# Altium integrated library microchip.IntLib: 312 symbols (part 4 of 5)
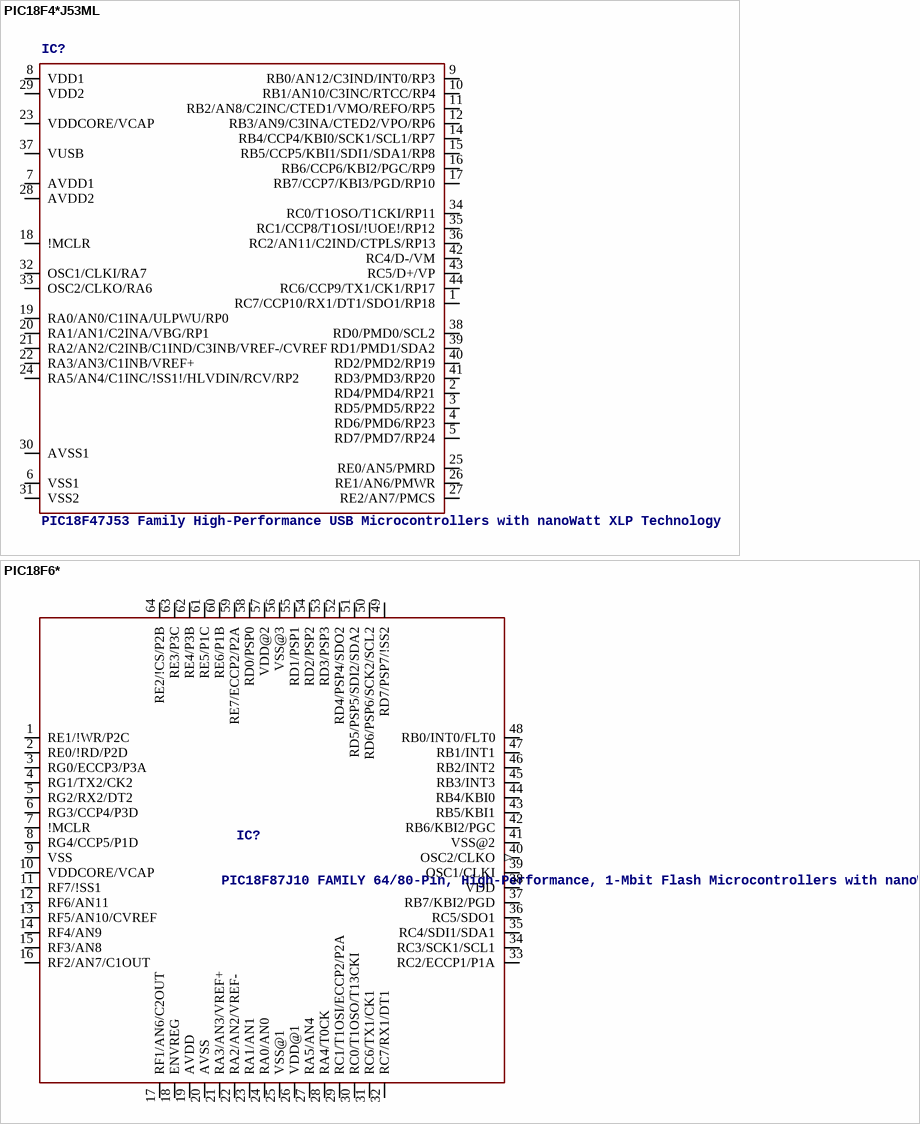
[diagram p46: symbols PIC18F4*J53ML to PIC18F6*]

## PIC18F4*J53ML
designator IC?, comment PIC18F47J53 Family High-Performance USB Microcontrollers with nanoWatt XLP Technology   Source:  Data sheet
MPN: PIC18F46J53-I/ML; MPN: PIC18F47J53-I/ML; OC_FARNELL: unknown; OC_NEWARK: 63R7851; OC_FARNELL: 1815000; OC_NEWARK: 63R7855
footprint QFN44ML8X8
pins: 1 RC7/CCP10/RX1/DT1/SDO1/RP18, 2 RD4/PMD4/RP21, 3 RD5/PMD5/RP22, 4 RD6/PMD6/RP23, 5 RD7/PMD7/RP24, 6 VSS1, 7 AVDD1, 8 VDD1, 9 RB0/AN12/C3IND/INT0/RP3, 10 RB1/AN10/C3INC/RTCC/RP4, 11 RB2/AN8/C2INC/CTED1/VMO/REFO/RP5, 12 RB3/AN9/C3INA/CTED2/VPO/RP6, 14 RB4/CCP4/KBI0/SCK1/SCL1/RP7, 15 RB5/CCP5/KBI1/SDI1/SDA1/RP8, 16 RB6/CCP6/KBI2/PGC/RP9, 17 RB7/CCP7/KBI3/PGD/RP10, 18 !MCLR, 19 RA0/AN0/C1INA/ULPWU/RP0, 20 RA1/AN1/C2INA/VBG/RP1, 21 RA2/AN2/C2INB/C1IND/C3INB/VREF-/CVREF, 22 RA3/AN3/C1INB/VREF+, 23 VDDCORE/VCAP, 24 RA5/AN4/C1INC/!SS1!/HLVDIN/RCV/RP2, 25 RE0/AN5/PMRD, 26 RE1/AN6/PMWR, 27 RE2/AN7/PMCS, 28 AVDD2, 29 VDD2, 30 AVSS1, 31 VSS2, 32 OSC1/CLKI/RA7, 33 OSC2/CLKO/RA6, 34 RC0/T1OSO/T1CKI/RP11, 35 RC1/CCP8/T1OSI/!UOE!/RP12, 36 RC2/AN11/C2IND/CTPLS/RP13, 37 VUSB, 38 RD0/PMD0/SCL2, 39 RD1/PMD1/SDA2, 40 RD2/PMD2/RP19, 41 RD3/PMD3/RP20, 42 RC4/D-/VM, 43 RC5/D+/VP, 44 RC6/CCP9/TX1/CK1/RP17

## PIC18F6*
designator IC?, comment PIC18F87J10 FAMILY 64/80-Pin, High-Performance, 1-Mbit Flash Microcontrollers with nanoWatt Technology   Source: http://www.microchip.com/ .. 39663c.pdf
MPN: PIC18F65J10-I/PT; MPN: PIC18F65J15T-I/PT; MPN: PIC18F66J10-I/PT; MPN: PIC18F66J15-I/PT; MPN: PIC18F67J10-I/PT; MF: MICROCHIP; OC_FARNELL: 1332280; OC_NEWARK: 71J7261; OC_FARNELL: 1579611; OC_NEWARK: 71J7264; OC_FARNELL: 1332281; OC_NEWARK: 71J7266; OC_FARNELL: 1556181; OC_NEWARK: 71J7268; OC_FARNELL: 1332283; OC_NEWARK: 71J7273
footprint TQFP64-10X10
pins: 1 RE1/!WR/P2C, 2 RE0/!RD/P2D, 3 RG0/ECCP3/P3A, 4 RG1/TX2/CK2, 5 RG2/RX2/DT2, 6 RG3/CCP4/P3D, 7 !MCLR, 8 RG4/CCP5/P1D, 9 VSS (power), 10 VDDCORE/VCAP (power), 11 RF7/!SS1, 12 RF6/AN11, 13 RF5/AN10/CVREF, 14 RF4/AN9, 15 RF3/AN8, 16 RF2/AN7/C1OUT, 17 RF1/AN6/C2OUT, 18 ENVREG, 19 AVDD (power), 20 AVSS (power), 21 RA3/AN3/VREF+, 22 RA2/AN2/VREF-, 23 RA1/AN1, 24 RA0/AN0, 25 VSS@1 (power), 26 VDD@1 (power), 27 RA5/AN4, 28 RA4/T0CK, 29 RC1/T1OSI/ECCP2/P2A, 30 RC0/T1OSO/T13CKI, 31 RC6/TX1/CK1, 32 RC7/RX1/DT1, 33 RC2/ECCP1/P1A, 34 RC3/SCK1/SCL1, 35 RC4/SDI1/SDA1, 36 RC5/SDO1, 37 RB7/KBI2/PGD, 38 VDD (power), 39 OSC1/CLKI, 40 OSC2/CLKO (out), 41 VSS@2 (power), 42 RB6/KBI2/PGC, 43 RB5/KBI1, 44 RB4/KBI0, 45 RB3/INT3, 46 RB2/INT2, 47 RB1/INT1, 48 RB0/INT0/FLT0, 49 RD7/PSP7/!SS2, 50 RD6/PSP6/SCK2/SCL2, 51 RD5/PSP5/SDI2/SDA2, 52 RD4/PSP4/SDO2, 53 RD3/PSP3, 54 RD2/PSP2, 55 RD1/PSP1, 56 VSS@3 (power), 57 VDD@2 (power), 58 RD0/PSP0, 59 RE7/ECCP2/P2A, 60 RE6/P1B, 61 RE5/P1C, 62 RE4/P3B, 63 RE3/P3C, 64 RE2/!CS/P2B

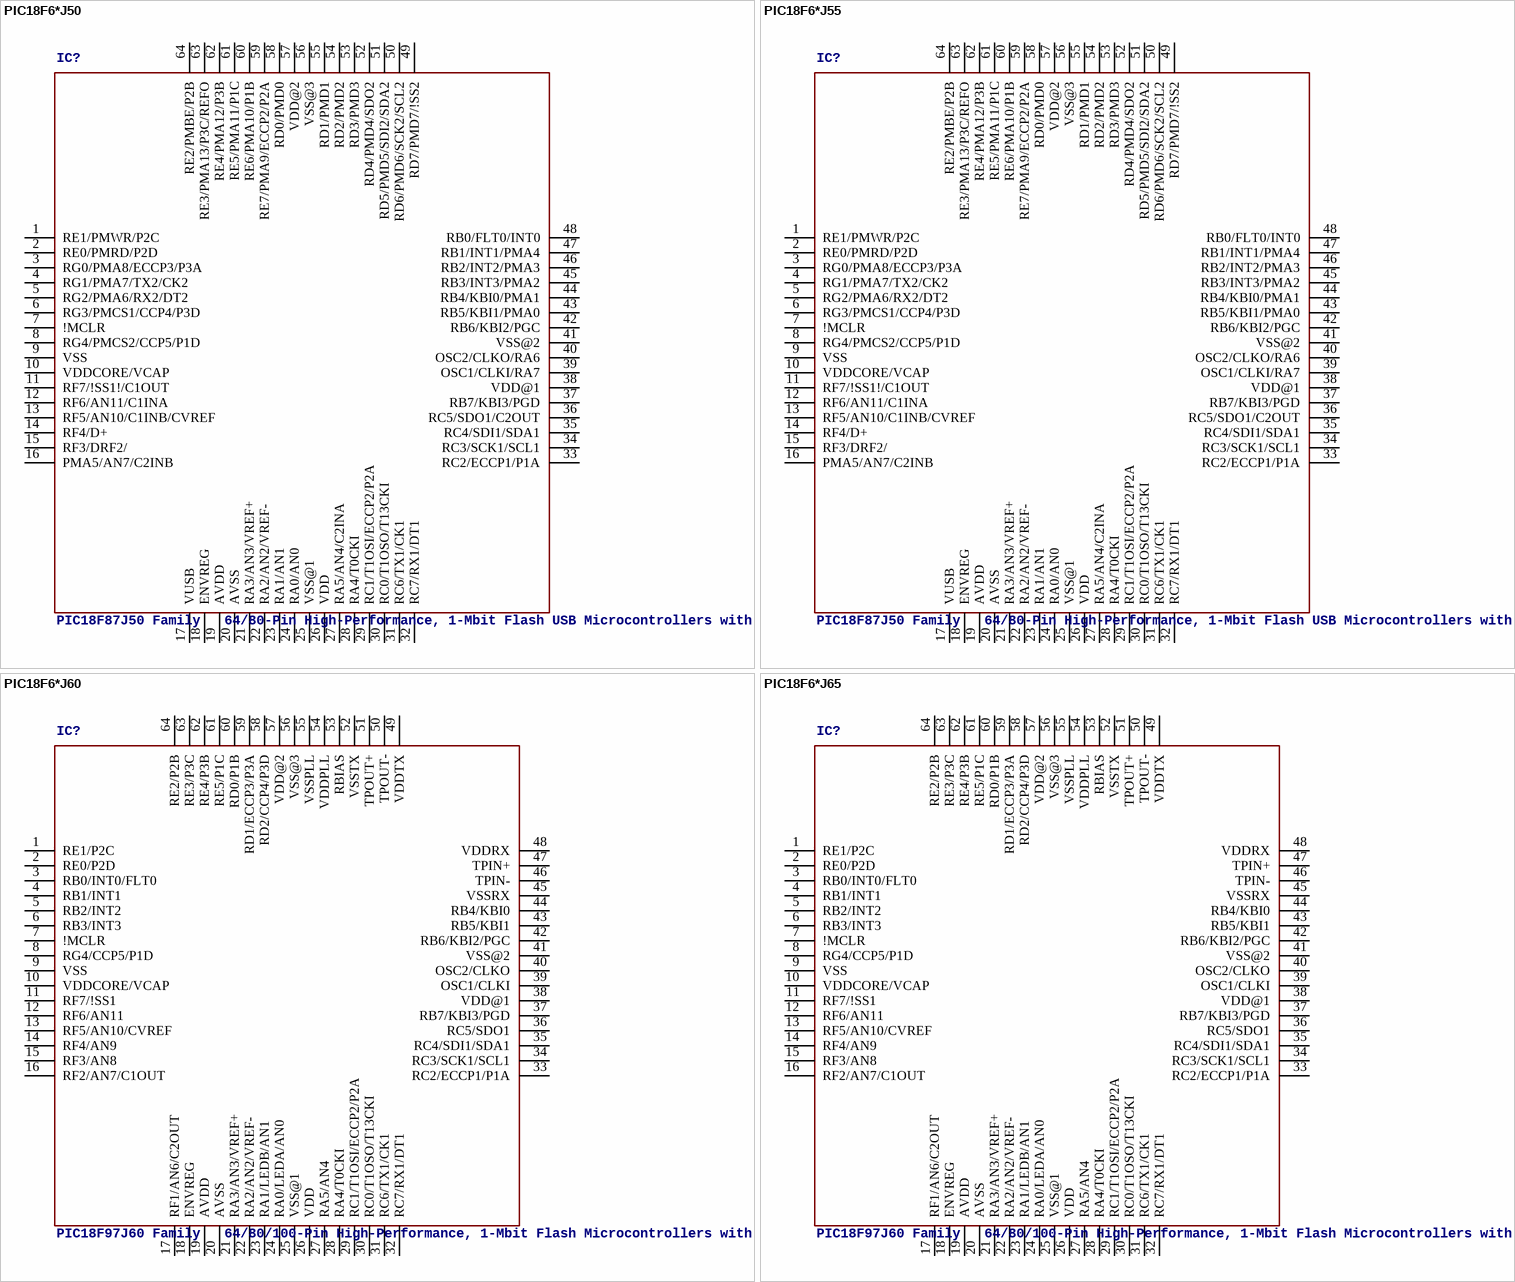
[diagram p25: symbols PIC18F6*J50 to PIC18F6*J65]

## PIC18F6*J50
designator IC?, comment PIC18F87J50 Family   64/80-Pin High-Performance, 1-Mbit Flash USB Microcontrollers with nanoWatt Technology Source: http://ww1.microchip.com/downloads/en/DeviceDoc/39775b.pdf
MPN: PIC18F65J50-I/PT; MPN: PIC18F66J50-I/PT; MPN: PIC18F67J50-I/PT; OC_FARNELL: 1439552; OC_NEWARK: 17M0960; OC_FARNELL: 1439555; OC_NEWARK: 17M0966; OC_FARNELL: 1439559; OC_NEWARK: 17M0972
footprint TQFP64-10X10
pins: 1 RE1/PMWR/P2C, 2 RE0/PMRD/P2D, 3 RG0/PMA8/ECCP3/P3A, 4 RG1/PMA7/TX2/CK2, 5 RG2/PMA6/RX2/DT2, 6 RG3/PMCS1/CCP4/P3D, 7 !MCLR, 8 RG4/PMCS2/CCP5/P1D, 9 VSS (power), 10 VDDCORE/VCAP, 11 RF7/!SS1!/C1OUT, 12 RF6/AN11/C1INA, 13 RF5/AN10/C1INB/CVREF, 14 RF4/D+, 15 RF3/DRF2/, 16 PMA5/AN7/C2INB, 17 VUSB, 18 ENVREG, 19 AVDD, 20 AVSS, 21 RA3/AN3/VREF+, 22 RA2/AN2/VREF-, 23 RA1/AN1, 24 RA0/AN0, 25 VSS@1 (power), 26 VDD (power), 27 RA5/AN4/C2INA, 28 RA4/T0CKI, 29 RC1/T1OSI/ECCP2/P2A, 30 RC0/T1OSO/T13CKI, 31 RC6/TX1/CK1, 32 RC7/RX1/DT1, 33 RC2/ECCP1/P1A, 34 RC3/SCK1/SCL1, 35 RC4/SDI1/SDA1, 36 RC5/SDO1/C2OUT, 37 RB7/KBI3/PGD, 38 VDD@1 (power), 39 OSC1/CLKI/RA7, 40 OSC2/CLKO/RA6, 41 VSS@2 (power), 42 RB6/KBI2/PGC, 43 RB5/KBI1/PMA0, 44 RB4/KBI0/PMA1, 45 RB3/INT3/PMA2, 46 RB2/INT2/PMA3, 47 RB1/INT1/PMA4, 48 RB0/FLT0/INT0, 49 RD7/PMD7/!SS2, 50 RD6/PMD6/SCK2/SCL2, 51 RD5/PMD5/SDI2/SDA2, 52 RD4/PMD4/SDO2, 53 RD3/PMD3, 54 RD2/PMD2, 55 RD1/PMD1, 56 VSS@3 (power), 57 VDD@2 (power), 58 RD0/PMD0, 59 RE7/PMA9/ECCP2/P2A, 60 RE6/PMA10/P1B, 61 RE5/PMA11/P1C, 62 RE4/PMA12/P3B, 63 RE3/PMA13/P3C/REFO, 64 RE2/PMBE/P2B

## PIC18F6*J55
designator IC?, comment PIC18F87J50 Family   64/80-Pin High-Performance, 1-Mbit Flash USB Microcontrollers with nanoWatt Technology Source: http://ww1.microchip.com/downloads/en/DeviceDoc/39775b.pdf
MPN: PIC18F66J55-I/PT; OC_FARNELL: 1439556; OC_NEWARK: 17M0968
footprint TQFP64-10X10
pins: 1 RE1/PMWR/P2C, 2 RE0/PMRD/P2D, 3 RG0/PMA8/ECCP3/P3A, 4 RG1/PMA7/TX2/CK2, 5 RG2/PMA6/RX2/DT2, 6 RG3/PMCS1/CCP4/P3D, 7 !MCLR, 8 RG4/PMCS2/CCP5/P1D, 9 VSS (power), 10 VDDCORE/VCAP, 11 RF7/!SS1!/C1OUT, 12 RF6/AN11/C1INA, 13 RF5/AN10/C1INB/CVREF, 14 RF4/D+, 15 RF3/DRF2/, 16 PMA5/AN7/C2INB, 17 VUSB, 18 ENVREG, 19 AVDD, 20 AVSS, 21 RA3/AN3/VREF+, 22 RA2/AN2/VREF-, 23 RA1/AN1, 24 RA0/AN0, 25 VSS@1 (power), 26 VDD (power), 27 RA5/AN4/C2INA, 28 RA4/T0CKI, 29 RC1/T1OSI/ECCP2/P2A, 30 RC0/T1OSO/T13CKI, 31 RC6/TX1/CK1, 32 RC7/RX1/DT1, 33 RC2/ECCP1/P1A, 34 RC3/SCK1/SCL1, 35 RC4/SDI1/SDA1, 36 RC5/SDO1/C2OUT, 37 RB7/KBI3/PGD, 38 VDD@1 (power), 39 OSC1/CLKI/RA7, 40 OSC2/CLKO/RA6, 41 VSS@2 (power), 42 RB6/KBI2/PGC, 43 RB5/KBI1/PMA0, 44 RB4/KBI0/PMA1, 45 RB3/INT3/PMA2, 46 RB2/INT2/PMA3, 47 RB1/INT1/PMA4, 48 RB0/FLT0/INT0, 49 RD7/PMD7/!SS2, 50 RD6/PMD6/SCK2/SCL2, 51 RD5/PMD5/SDI2/SDA2, 52 RD4/PMD4/SDO2, 53 RD3/PMD3, 54 RD2/PMD2, 55 RD1/PMD1, 56 VSS@3 (power), 57 VDD@2 (power), 58 RD0/PMD0, 59 RE7/PMA9/ECCP2/P2A, 60 RE6/PMA10/P1B, 61 RE5/PMA11/P1C, 62 RE4/PMA12/P3B, 63 RE3/PMA13/P3C/REFO, 64 RE2/PMBE/P2B

## PIC18F6*J60
designator IC?, comment PIC18F97J60 Family   64/80/100-Pin High-Performance, 1-Mbit Flash Microcontrollers with Ethernet Source: http://ww1.microchip.com/downloads/en/DeviceDoc/39762d.pdf
MPN: PIC18F66J60-I/PT; MPN: PIC18F67J60-I/PT; OC_FARNELL: 1332282; OC_NEWARK: 56K7296; OC_FARNELL: 1332285; OC_NEWARK: 56K7302
footprint TQFP64-10X10
pins: 1 RE1/P2C, 2 RE0/P2D, 3 RB0/INT0/FLT0, 4 RB1/INT1, 5 RB2/INT2, 6 RB3/INT3, 7 !MCLR, 8 RG4/CCP5/P1D, 9 VSS, 10 VDDCORE/VCAP, 11 RF7/!SS1, 12 RF6/AN11, 13 RF5/AN10/CVREF, 14 RF4/AN9, 15 RF3/AN8, 16 RF2/AN7/C1OUT, 17 RF1/AN6/C2OUT, 18 ENVREG, 19 AVDD, 20 AVSS, 21 RA3/AN3/VREF+, 22 RA2/AN2/VREF-, 23 RA1/LEDB/AN1, 24 RA0/LEDA/AN0, 25 VSS@1, 26 VDD, 27 RA5/AN4, 28 RA4/T0CKI, 29 RC1/T1OSI/ECCP2/P2A, 30 RC0/T1OSO/T13CKI, 31 RC6/TX1/CK1, 32 RC7/RX1/DT1, 33 RC2/ECCP1/P1A, 34 RC3/SCK1/SCL1, 35 RC4/SDI1/SDA1, 36 RC5/SDO1, 37 RB7/KBI3/PGD, 38 VDD@1, 39 OSC1/CLKI, 40 OSC2/CLKO, 41 VSS@2, 42 RB6/KBI2/PGC, 43 RB5/KBI1, 44 RB4/KBI0, 45 VSSRX, 46 TPIN-, 47 TPIN+, 48 VDDRX, 49 VDDTX, 50 TPOUT-, 51 TPOUT+, 52 VSSTX, 53 RBIAS, 54 VDDPLL, 55 VSSPLL, 56 VSS@3, 57 VDD@2, 58 RD2/CCP4/P3D, 59 RD1/ECCP3/P3A, 60 RD0/P1B, 61 RE5/P1C, 62 RE4/P3B, 63 RE3/P3C, 64 RE2/P2B

## PIC18F6*J65
designator IC?, comment PIC18F97J60 Family   64/80/100-Pin High-Performance, 1-Mbit Flash Microcontrollers with Ethernet Source: http://ww1.microchip.com/downloads/en/DeviceDoc/39762d.pdf
MPN: PIC18F66J65-I/PT; OC_FARNELL: 1579612; OC_NEWARK: 56K7298
footprint TQFP64-10X10
pins: 1 RE1/P2C, 2 RE0/P2D, 3 RB0/INT0/FLT0, 4 RB1/INT1, 5 RB2/INT2, 6 RB3/INT3, 7 !MCLR, 8 RG4/CCP5/P1D, 9 VSS, 10 VDDCORE/VCAP, 11 RF7/!SS1, 12 RF6/AN11, 13 RF5/AN10/CVREF, 14 RF4/AN9, 15 RF3/AN8, 16 RF2/AN7/C1OUT, 17 RF1/AN6/C2OUT, 18 ENVREG, 19 AVDD, 20 AVSS, 21 RA3/AN3/VREF+, 22 RA2/AN2/VREF-, 23 RA1/LEDB/AN1, 24 RA0/LEDA/AN0, 25 VSS@1, 26 VDD, 27 RA5/AN4, 28 RA4/T0CKI, 29 RC1/T1OSI/ECCP2/P2A, 30 RC0/T1OSO/T13CKI, 31 RC6/TX1/CK1, 32 RC7/RX1/DT1, 33 RC2/ECCP1/P1A, 34 RC3/SCK1/SCL1, 35 RC4/SDI1/SDA1, 36 RC5/SDO1, 37 RB7/KBI3/PGD, 38 VDD@1, 39 OSC1/CLKI, 40 OSC2/CLKO, 41 VSS@2, 42 RB6/KBI2/PGC, 43 RB5/KBI1, 44 RB4/KBI0, 45 VSSRX, 46 TPIN-, 47 TPIN+, 48 VDDRX, 49 VDDTX, 50 TPOUT-, 51 TPOUT+, 52 VSSTX, 53 RBIAS, 54 VDDPLL, 55 VSSPLL, 56 VSS@3, 57 VDD@2, 58 RD2/CCP4/P3D, 59 RD1/ECCP3/P3A, 60 RD0/P1B, 61 RE5/P1C, 62 RE4/P3B, 63 RE3/P3C, 64 RE2/P2B

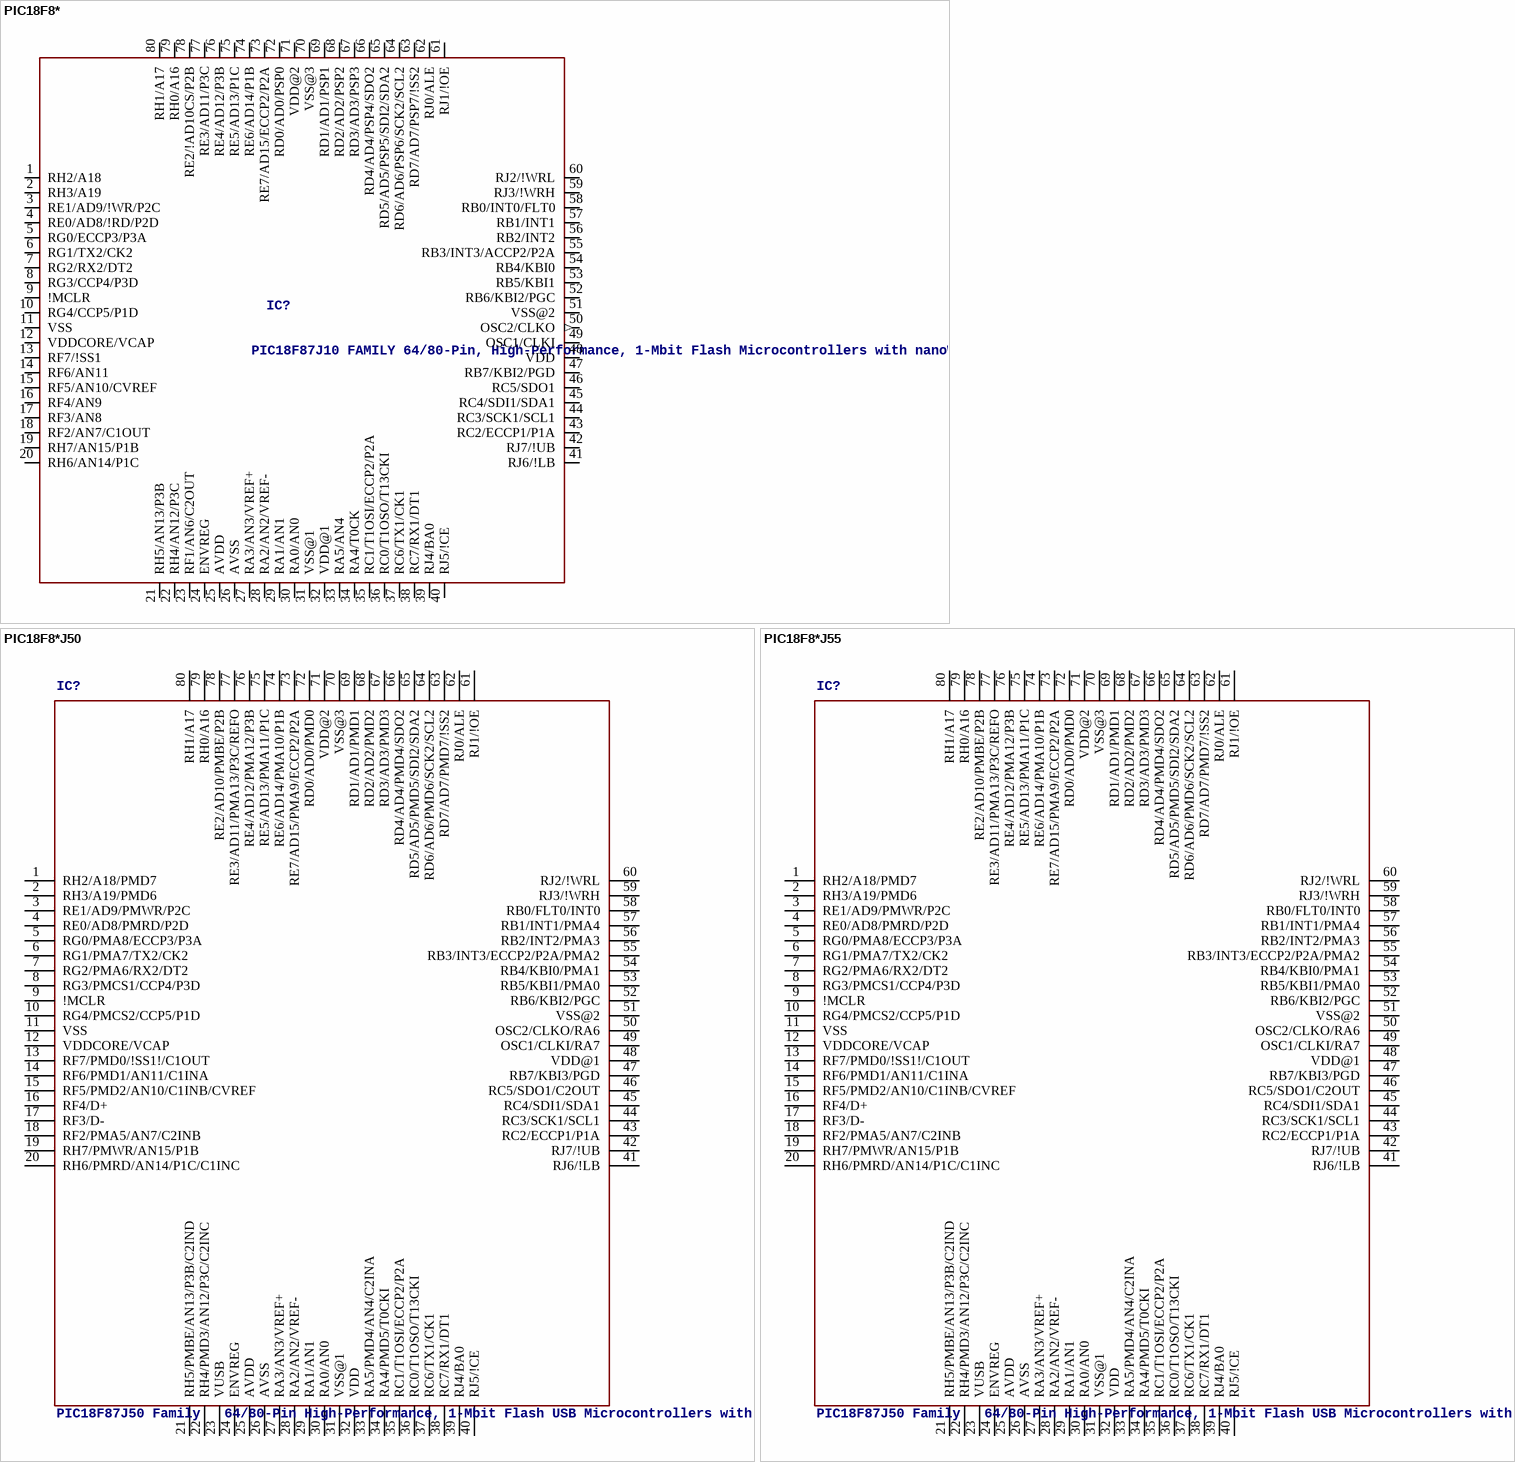
[diagram p26: symbols PIC18F8* to PIC18F8*J55]

## PIC18F8*
designator IC?, comment PIC18F87J10 FAMILY 64/80-Pin, High-Performance, 1-Mbit Flash Microcontrollers with nanoWatt Technology   Source: http://www.microchip.com/ .. 39663c.pdf
MPN: PIC18F85J10-I/PT; MPN: PIC18F85J15-I/PT; MPN: PIC18F86J10-I/PT; MPN: PIC18F86J15-I/PT; MPN: PIC18F87J10-I/PT; MF: MICROCHIP; OC_FARNELL: 1847396; OC_NEWARK: 71J7277; OC_FARNELL: unknown; OC_NEWARK: 71J7279; OC_FARNELL: 1332288; OC_NEWARK: 34M8058; OC_NEWARK: 71J7284; OC_FARNELL: 1332290; OC_NEWARK: 71J7289
footprint TQFP80-12X12
pins: 1 RH2/A18, 2 RH3/A19, 3 RE1/AD9/!WR/P2C, 4 RE0/AD8/!RD/P2D, 5 RG0/ECCP3/P3A, 6 RG1/TX2/CK2, 7 RG2/RX2/DT2, 8 RG3/CCP4/P3D, 9 !MCLR, 10 RG4/CCP5/P1D, 11 VSS (power), 12 VDDCORE/VCAP (power), 13 RF7/!SS1, 14 RF6/AN11, 15 RF5/AN10/CVREF, 16 RF4/AN9, 17 RF3/AN8, 18 RF2/AN7/C1OUT, 19 RH7/AN15/P1B, 20 RH6/AN14/P1C, 21 RH5/AN13/P3B, 22 RH4/AN12/P3C, 23 RF1/AN6/C2OUT, 24 ENVREG, 25 AVDD (power), 26 AVSS (power), 27 RA3/AN3/VREF+, 28 RA2/AN2/VREF-, 29 RA1/AN1, 30 RA0/AN0, 31 VSS@1 (power), 32 VDD@1 (power), 33 RA5/AN4, 34 RA4/T0CK, 35 RC1/T1OSI/ECCP2/P2A, 36 RC0/T1OSO/T13CKI, 37 RC6/TX1/CK1, 38 RC7/RX1/DT1, 39 RJ4/BA0, 40 RJ5/!CE, 41 RJ6/!LB, 42 RJ7/!UB, 43 RC2/ECCP1/P1A, 44 RC3/SCK1/SCL1, 45 RC4/SDI1/SDA1, 46 RC5/SDO1, 47 RB7/KBI2/PGD, 48 VDD (power), 49 OSC1/CLKI, 50 OSC2/CLKO (out), 51 VSS@2 (power), 52 RB6/KBI2/PGC, 53 RB5/KBI1, 54 RB4/KBI0, 55 RB3/INT3/ACCP2/P2A, 56 RB2/INT2, 57 RB1/INT1, 58 RB0/INT0/FLT0, 59 RJ3/!WRH, 60 RJ2/!WRL, 61 RJ1/!OE, 62 RJ0/ALE, 63 RD7/AD7/PSP7/!SS2, 64 RD6/AD6/PSP6/SCK2/SCL2, 65 RD5/AD5/PSP5/SDI2/SDA2, 66 RD4/AD4/PSP4/SDO2, 67 RD3/AD3/PSP3, 68 RD2/AD2/PSP2, 69 RD1/AD1/PSP1, 70 VSS@3 (power), 71 VDD@2 (power), 72 RD0/AD0/PSP0, 73 RE7/AD15/ECCP2/P2A, 74 RE6/AD14/P1B, 75 RE5/AD13/P1C, 76 RE4/AD12/P3B, 77 RE3/AD11/P3C, 78 RE2/!AD10CS/P2B, 79 RH0/A16, 80 RH1/A17

## PIC18F8*J50
designator IC?, comment PIC18F87J50 Family   64/80-Pin High-Performance, 1-Mbit Flash USB Microcontrollers with nanoWatt Technology Source: http://ww1.microchip.com/downloads/en/DeviceDoc/39775b.pdf
MPN: PIC18F85J50-I/PT; MPN: PIC18F86J50-I/PT; MPN: PIC18F87J50-I/PT; OC_FARNELL: 1439565; OC_NEWARK: 59M1134; OC_FARNELL: 1439569; OC_NEWARK: 59M1137; OC_FARNELL: 1439572; OC_NEWARK: 17M0986
footprint TQFP80-12X12
pins: 1 RH2/A18/PMD7, 2 RH3/A19/PMD6, 3 RE1/AD9/PMWR/P2C, 4 RE0/AD8/PMRD/P2D, 5 RG0/PMA8/ECCP3/P3A, 6 RG1/PMA7/TX2/CK2, 7 RG2/PMA6/RX2/DT2, 8 RG3/PMCS1/CCP4/P3D, 9 !MCLR, 10 RG4/PMCS2/CCP5/P1D, 11 VSS (power), 12 VDDCORE/VCAP, 13 RF7/PMD0/!SS1!/C1OUT, 14 RF6/PMD1/AN11/C1INA, 15 RF5/PMD2/AN10/C1INB/CVREF, 16 RF4/D+, 17 RF3/D-, 18 RF2/PMA5/AN7/C2INB, 19 RH7/PMWR/AN15/P1B, 20 RH6/PMRD/AN14/P1C/C1INC, 21 RH5/PMBE/AN13/P3B/C2IND, 22 RH4/PMD3/AN12/P3C/C2INC, 23 VUSB, 24 ENVREG, 25 AVDD, 26 AVSS, 27 RA3/AN3/VREF+, 28 RA2/AN2/VREF-, 29 RA1/AN1, 30 RA0/AN0, 31 VSS@1 (power), 32 VDD (power), 33 RA5/PMD4/AN4/C2INA, 34 RA4/PMD5/T0CKI, 35 RC1/T1OSI/ECCP2/P2A, 36 RC0/T1OSO/T13CKI, 37 RC6/TX1/CK1, 38 RC7/RX1/DT1, 39 RJ4/BA0, 40 RJ5/!CE, 41 RJ6/!LB, 42 RJ7/!UB, 43 RC2/ECCP1/P1A, 44 RC3/SCK1/SCL1, 45 RC4/SDI1/SDA1, 46 RC5/SDO1/C2OUT, 47 RB7/KBI3/PGD, 48 VDD@1 (power), 49 OSC1/CLKI/RA7, 50 OSC2/CLKO/RA6, 51 VSS@2 (power), 52 RB6/KBI2/PGC, 53 RB5/KBI1/PMA0, 54 RB4/KBI0/PMA1, 55 RB3/INT3/ECCP2/P2A/PMA2, 56 RB2/INT2/PMA3, 57 RB1/INT1/PMA4, 58 RB0/FLT0/INT0, 59 RJ3/!WRH, 60 RJ2/!WRL, 61 RJ1/!OE, 62 RJ0/ALE, 63 RD7/AD7/PMD7/!SS2, 64 RD6/AD6/PMD6/SCK2/SCL2, 65 RD5/AD5/PMD5/SDI2/SDA2, 66 RD4/AD4/PMD4/SDO2, 67 RD3/AD3/PMD3, 68 RD2/AD2/PMD2, 69 RD1/AD1/PMD1, 70 VSS@3 (power), 71 VDD@2 (power), 72 RD0/AD0/PMD0, 73 RE7/AD15/PMA9/ECCP2/P2A, 74 RE6/AD14/PMA10/P1B, 75 RE5/AD13/PMA11/P1C, 76 RE4/AD12/PMA12/P3B, 77 RE3/AD11/PMA13/P3C/REFO, 78 RE2/AD10/PMBE/P2B, 79 RH0/A16, 80 RH1/A17

## PIC18F8*J55
designator IC?, comment PIC18F87J50 Family   64/80-Pin High-Performance, 1-Mbit Flash USB Microcontrollers with nanoWatt Technology Source: http://ww1.microchip.com/downloads/en/DeviceDoc/39775b.pdf
MPN: PIC18F86J55-I/PT; OC_FARNELL: unknown; OC_NEWARK: 17M0982
footprint TQFP80-12X12
pins: 1 RH2/A18/PMD7, 2 RH3/A19/PMD6, 3 RE1/AD9/PMWR/P2C, 4 RE0/AD8/PMRD/P2D, 5 RG0/PMA8/ECCP3/P3A, 6 RG1/PMA7/TX2/CK2, 7 RG2/PMA6/RX2/DT2, 8 RG3/PMCS1/CCP4/P3D, 9 !MCLR, 10 RG4/PMCS2/CCP5/P1D, 11 VSS (power), 12 VDDCORE/VCAP, 13 RF7/PMD0/!SS1!/C1OUT, 14 RF6/PMD1/AN11/C1INA, 15 RF5/PMD2/AN10/C1INB/CVREF, 16 RF4/D+, 17 RF3/D-, 18 RF2/PMA5/AN7/C2INB, 19 RH7/PMWR/AN15/P1B, 20 RH6/PMRD/AN14/P1C/C1INC, 21 RH5/PMBE/AN13/P3B/C2IND, 22 RH4/PMD3/AN12/P3C/C2INC, 23 VUSB, 24 ENVREG, 25 AVDD, 26 AVSS, 27 RA3/AN3/VREF+, 28 RA2/AN2/VREF-, 29 RA1/AN1, 30 RA0/AN0, 31 VSS@1 (power), 32 VDD (power), 33 RA5/PMD4/AN4/C2INA, 34 RA4/PMD5/T0CKI, 35 RC1/T1OSI/ECCP2/P2A, 36 RC0/T1OSO/T13CKI, 37 RC6/TX1/CK1, 38 RC7/RX1/DT1, 39 RJ4/BA0, 40 RJ5/!CE, 41 RJ6/!LB, 42 RJ7/!UB, 43 RC2/ECCP1/P1A, 44 RC3/SCK1/SCL1, 45 RC4/SDI1/SDA1, 46 RC5/SDO1/C2OUT, 47 RB7/KBI3/PGD, 48 VDD@1 (power), 49 OSC1/CLKI/RA7, 50 OSC2/CLKO/RA6, 51 VSS@2 (power), 52 RB6/KBI2/PGC, 53 RB5/KBI1/PMA0, 54 RB4/KBI0/PMA1, 55 RB3/INT3/ECCP2/P2A/PMA2, 56 RB2/INT2/PMA3, 57 RB1/INT1/PMA4, 58 RB0/FLT0/INT0, 59 RJ3/!WRH, 60 RJ2/!WRL, 61 RJ1/!OE, 62 RJ0/ALE, 63 RD7/AD7/PMD7/!SS2, 64 RD6/AD6/PMD6/SCK2/SCL2, 65 RD5/AD5/PMD5/SDI2/SDA2, 66 RD4/AD4/PMD4/SDO2, 67 RD3/AD3/PMD3, 68 RD2/AD2/PMD2, 69 RD1/AD1/PMD1, 70 VSS@3 (power), 71 VDD@2 (power), 72 RD0/AD0/PMD0, 73 RE7/AD15/PMA9/ECCP2/P2A, 74 RE6/AD14/PMA10/P1B, 75 RE5/AD13/PMA11/P1C, 76 RE4/AD12/PMA12/P3B, 77 RE3/AD11/PMA13/P3C/REFO, 78 RE2/AD10/PMBE/P2B, 79 RH0/A16, 80 RH1/A17

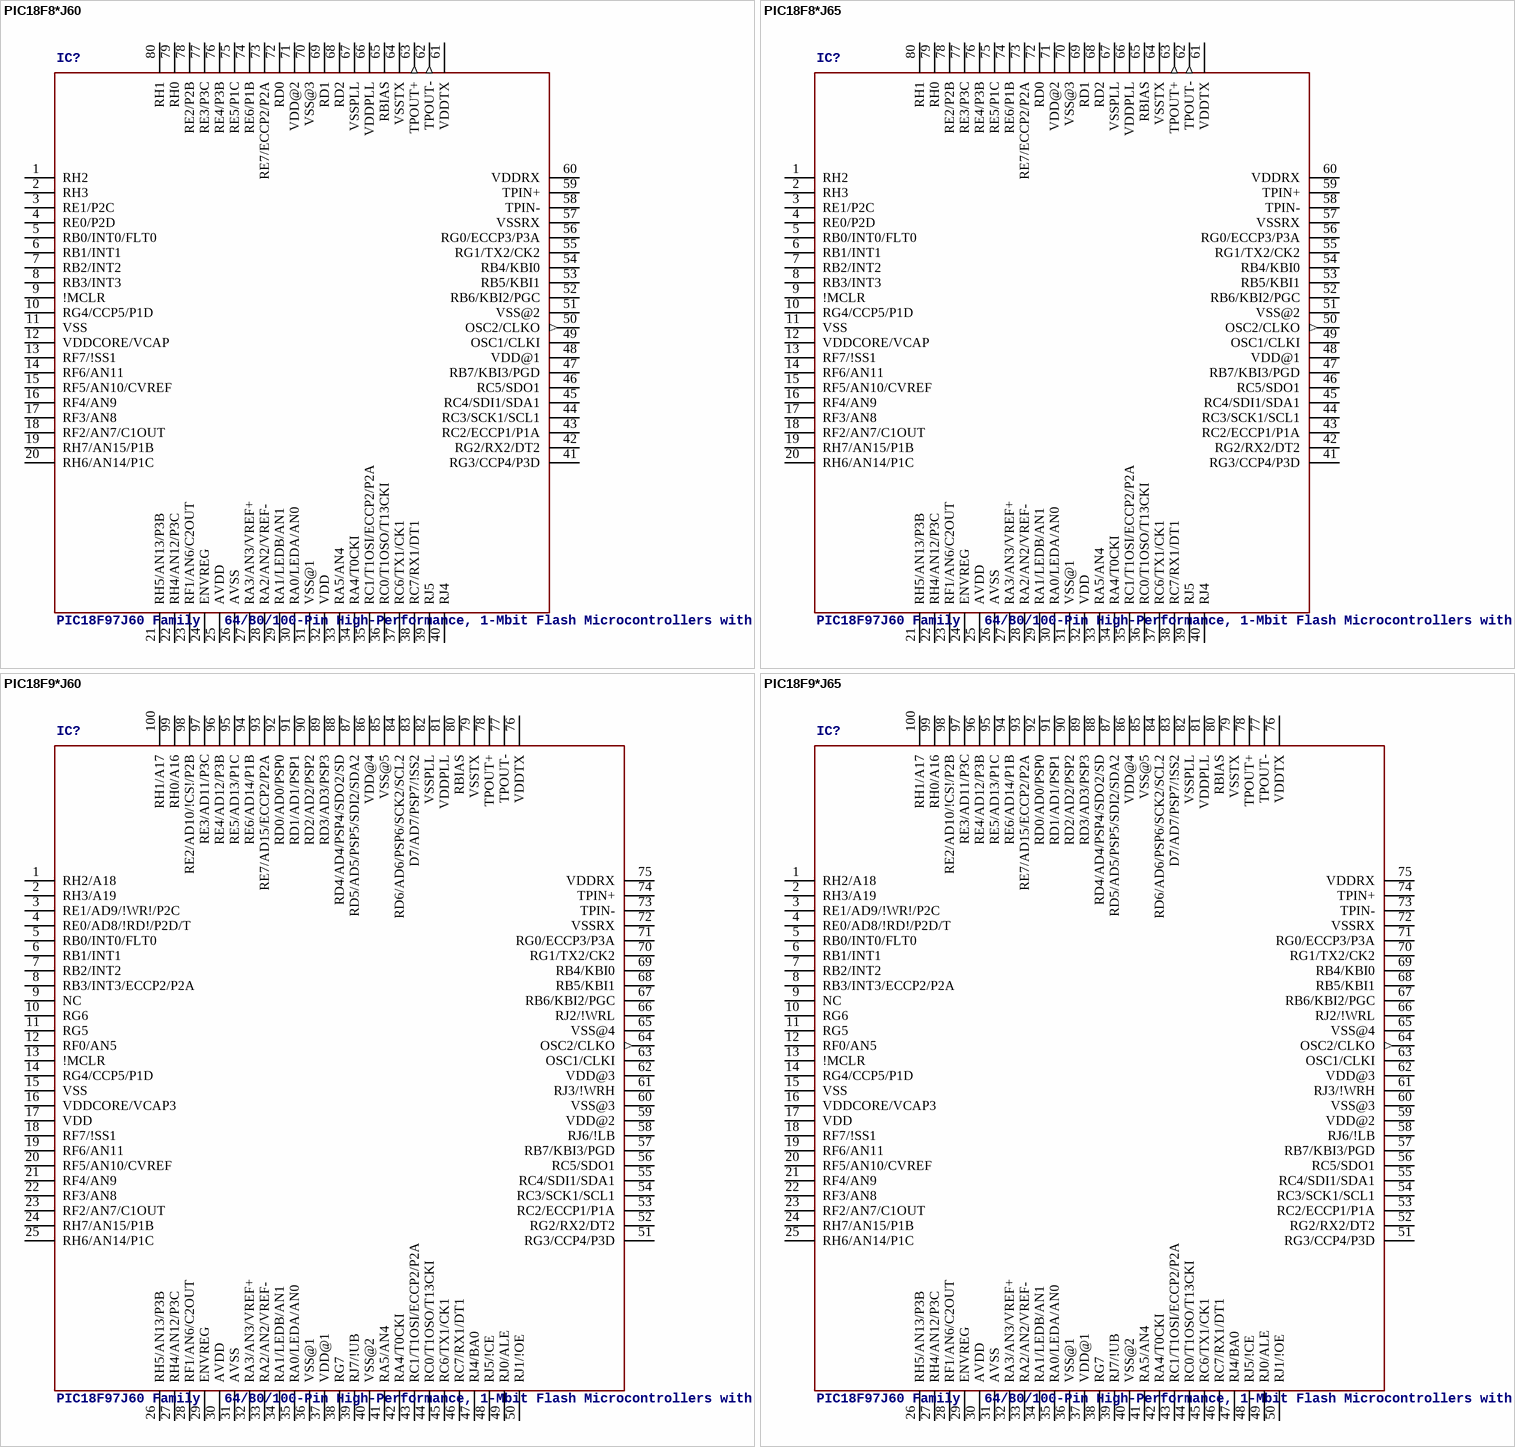
[diagram p27: symbols PIC18F8*J60 to PIC18F9*J65]

## PIC18F8*J60
designator IC?, comment PIC18F97J60 Family   64/80/100-Pin High-Performance, 1-Mbit Flash Microcontrollers with Ethernet Source: http://ww1.microchip.com/downloads/en/DeviceDoc/39762d.pdf
MPN: PIC18F86J60-I/PT; MPN: PIC18F87J60-I/PT; OC_FARNELL: unknown; OC_NEWARK: 56K7306; OC_FARNELL: 1332291; OC_NEWARK: 56K7312
footprint TQFP80-12X12
pins: 1 RH2, 2 RH3, 3 RE1/P2C, 4 RE0/P2D, 5 RB0/INT0/FLT0, 6 RB1/INT1, 7 RB2/INT2, 8 RB3/INT3, 9 !MCLR, 10 RG4/CCP5/P1D, 11 VSS (power), 12 VDDCORE/VCAP, 13 RF7/!SS1, 14 RF6/AN11, 15 RF5/AN10/CVREF, 16 RF4/AN9, 17 RF3/AN8, 18 RF2/AN7/C1OUT, 19 RH7/AN15/P1B, 20 RH6/AN14/P1C, 21 RH5/AN13/P3B, 22 RH4/AN12/P3C, 23 RF1/AN6/C2OUT, 24 ENVREG, 25 AVDD, 26 AVSS, 27 RA3/AN3/VREF+, 28 RA2/AN2/VREF-, 29 RA1/LEDB/AN1, 30 RA0/LEDA/AN0, 31 VSS@1 (power), 32 VDD (power), 33 RA5/AN4, 34 RA4/T0CKI, 35 RC1/T1OSI/ECCP2/P2A, 36 RC0/T1OSO/T13CKI, 37 RC6/TX1/CK1, 38 RC7/RX1/DT1, 39 RJ5, 40 RJ4, 41 RG3/CCP4/P3D, 42 RG2/RX2/DT2, 43 RC2/ECCP1/P1A, 44 RC3/SCK1/SCL1, 45 RC4/SDI1/SDA1, 46 RC5/SDO1, 47 RB7/KBI3/PGD, 48 VDD@1 (power), 49 OSC1/CLKI, 50 OSC2/CLKO (out), 51 VSS@2 (power), 52 RB6/KBI2/PGC, 53 RB5/KBI1, 54 RB4/KBI0, 55 RG1/TX2/CK2, 56 RG0/ECCP3/P3A, 57 VSSRX, 58 TPIN-, 59 TPIN+, 60 VDDRX, 61 VDDTX, 62 TPOUT- (out), 63 TPOUT+ (out), 64 VSSTX, 65 RBIAS, 66 VDDPLL, 67 VSSPLL, 68 RD2, 69 RD1, 70 VSS@3 (power), 71 VDD@2 (power), 72 RD0, 73 RE7/ECCP2/P2A, 74 RE6/P1B, 75 RE5/P1C, 76 RE4/P3B, 77 RE3/P3C, 78 RE2/P2B, 79 RH0, 80 RH1

## PIC18F8*J65
designator IC?, comment PIC18F97J60 Family   64/80/100-Pin High-Performance, 1-Mbit Flash Microcontrollers with Ethernet Source: http://ww1.microchip.com/downloads/en/DeviceDoc/39762d.pdf
MPN: PIC18F86J65-I/PT; OC_FARNELL: 1564571; OC_NEWARK: 95M7065
footprint TQFP80-12X12
pins: 1 RH2, 2 RH3, 3 RE1/P2C, 4 RE0/P2D, 5 RB0/INT0/FLT0, 6 RB1/INT1, 7 RB2/INT2, 8 RB3/INT3, 9 !MCLR, 10 RG4/CCP5/P1D, 11 VSS (power), 12 VDDCORE/VCAP, 13 RF7/!SS1, 14 RF6/AN11, 15 RF5/AN10/CVREF, 16 RF4/AN9, 17 RF3/AN8, 18 RF2/AN7/C1OUT, 19 RH7/AN15/P1B, 20 RH6/AN14/P1C, 21 RH5/AN13/P3B, 22 RH4/AN12/P3C, 23 RF1/AN6/C2OUT, 24 ENVREG, 25 AVDD, 26 AVSS, 27 RA3/AN3/VREF+, 28 RA2/AN2/VREF-, 29 RA1/LEDB/AN1, 30 RA0/LEDA/AN0, 31 VSS@1 (power), 32 VDD (power), 33 RA5/AN4, 34 RA4/T0CKI, 35 RC1/T1OSI/ECCP2/P2A, 36 RC0/T1OSO/T13CKI, 37 RC6/TX1/CK1, 38 RC7/RX1/DT1, 39 RJ5, 40 RJ4, 41 RG3/CCP4/P3D, 42 RG2/RX2/DT2, 43 RC2/ECCP1/P1A, 44 RC3/SCK1/SCL1, 45 RC4/SDI1/SDA1, 46 RC5/SDO1, 47 RB7/KBI3/PGD, 48 VDD@1 (power), 49 OSC1/CLKI, 50 OSC2/CLKO (out), 51 VSS@2 (power), 52 RB6/KBI2/PGC, 53 RB5/KBI1, 54 RB4/KBI0, 55 RG1/TX2/CK2, 56 RG0/ECCP3/P3A, 57 VSSRX, 58 TPIN-, 59 TPIN+, 60 VDDRX, 61 VDDTX, 62 TPOUT- (out), 63 TPOUT+ (out), 64 VSSTX, 65 RBIAS, 66 VDDPLL, 67 VSSPLL, 68 RD2, 69 RD1, 70 VSS@3 (power), 71 VDD@2 (power), 72 RD0, 73 RE7/ECCP2/P2A, 74 RE6/P1B, 75 RE5/P1C, 76 RE4/P3B, 77 RE3/P3C, 78 RE2/P2B, 79 RH0, 80 RH1

## PIC18F9*J60
designator IC?, comment PIC18F97J60 Family   64/80/100-Pin High-Performance, 1-Mbit Flash Microcontrollers with Ethernet Source: http://ww1.microchip.com/downloads/en/DeviceDoc/39762d.pdf
MPN: PIC18F96J60-I/PT; MPN: PIC18F97J60-I/PT; OC_FARNELL: 1332292; OC_NEWARK: 56K7316; OC_FARNELL: 1439573; OC_NEWARK: 56K7318
footprint TQFP100-14X14
pins: 1 RH2/A18, 2 RH3/A19, 3 RE1/AD9/!WR!/P2C, 4 RE0/AD8/!RD!/P2D/T, 5 RB0/INT0/FLT0, 6 RB1/INT1, 7 RB2/INT2, 8 RB3/INT3/ECCP2/P2A, 9 NC, 10 RG6, 11 RG5, 12 RF0/AN5, 13 !MCLR, 14 RG4/CCP5/P1D, 15 VSS (power), 16 VDDCORE/VCAP3, 17 VDD (power), 18 RF7/!SS1, 19 RF6/AN11, 20 RF5/AN10/CVREF, 21 RF4/AN9, 22 RF3/AN8, 23 RF2/AN7/C1OUT, 24 RH7/AN15/P1B, 25 RH6/AN14/P1C, 26 RH5/AN13/P3B, 27 RH4/AN12/P3C, 28 RF1/AN6/C2OUT, 29 ENVREG, 30 AVDD, 31 AVSS, 32 RA3/AN3/VREF+, 33 RA2/AN2/VREF-, 34 RA1/LEDB/AN1, 35 RA0/LEDA/AN0, 36 VSS@1 (power), 37 VDD@1 (power), 38 RG7, 39 RJ7/!UB, 40 VSS@2, 41 RA5/AN4, 42 RA4/T0CKI, 43 RC1/T1OSI/ECCP2/P2A, 44 RC0/T1OSO/T13CKI, 45 RC6/TX1/CK1, 46 RC7/RX1/DT1, 47 RJ4/BA0, 48 RJ5/!CE, 49 RJ0/ALE, 50 RJ1/!OE, 51 RG3/CCP4/P3D, 52 RG2/RX2/DT2, 53 RC2/ECCP1/P1A, 54 RC3/SCK1/SCL1, 55 RC4/SDI1/SDA1, 56 RC5/SDO1, 57 RB7/KBI3/PGD, 58 RJ6/!LB, 59 VDD@2 (power), 60 VSS@3 (power), 61 RJ3/!WRH, 62 VDD@3 (power), 63 OSC1/CLKI, 64 OSC2/CLKO (out), 65 VSS@4 (power), 66 RJ2/!WRL, 67 RB6/KBI2/PGC, 68 RB5/KBI1, 69 RB4/KBI0, 70 RG1/TX2/CK2, 71 RG0/ECCP3/P3A, 72 VSSRX, 73 TPIN-, 74 TPIN+, 75 VDDRX, 76 VDDTX, 77 TPOUT-, 78 TPOUT+, 79 VSSTX, 80 RBIAS, 81 VDDPLL, 82 VSSPLL, 83 D7/AD7/PSP7/!SS2, 84 RD6/AD6/PSP6/SCK2/SCL2, 85 VSS@5 (power), 86 VDD@4 (power), 87 RD5/AD5/PSP5/SDI2/SDA2, 88 RD4/AD4/PSP4/SDO2/SD, 89 RD3/AD3/PSP3, 90 RD2/AD2/PSP2, 91 RD1/AD1/PSP1, 92 RD0/AD0/PSP0, 93 RE7/AD15/ECCP2/P2A, 94 RE6/AD14/P1B, 95 RE5/AD13/P1C, 96 RE4/AD12/P3B, 97 RE3/AD11/P3C, 98 RE2/AD10/!CS!/P2B, 99 RH0/A16, 100 RH1/A17

## PIC18F9*J65
designator IC?, comment PIC18F97J60 Family   64/80/100-Pin High-Performance, 1-Mbit Flash Microcontrollers with Ethernet Source: http://ww1.microchip.com/downloads/en/DeviceDoc/39762d.pdf
MPN: PIC18F96J65-I/PT; OC_FARNELL: 1564573; OC_NEWARK: 56K7317
footprint TQFP100-14X14
pins: 1 RH2/A18, 2 RH3/A19, 3 RE1/AD9/!WR!/P2C, 4 RE0/AD8/!RD!/P2D/T, 5 RB0/INT0/FLT0, 6 RB1/INT1, 7 RB2/INT2, 8 RB3/INT3/ECCP2/P2A, 9 NC, 10 RG6, 11 RG5, 12 RF0/AN5, 13 !MCLR, 14 RG4/CCP5/P1D, 15 VSS (power), 16 VDDCORE/VCAP3, 17 VDD (power), 18 RF7/!SS1, 19 RF6/AN11, 20 RF5/AN10/CVREF, 21 RF4/AN9, 22 RF3/AN8, 23 RF2/AN7/C1OUT, 24 RH7/AN15/P1B, 25 RH6/AN14/P1C, 26 RH5/AN13/P3B, 27 RH4/AN12/P3C, 28 RF1/AN6/C2OUT, 29 ENVREG, 30 AVDD, 31 AVSS, 32 RA3/AN3/VREF+, 33 RA2/AN2/VREF-, 34 RA1/LEDB/AN1, 35 RA0/LEDA/AN0, 36 VSS@1 (power), 37 VDD@1 (power), 38 RG7, 39 RJ7/!UB, 40 VSS@2, 41 RA5/AN4, 42 RA4/T0CKI, 43 RC1/T1OSI/ECCP2/P2A, 44 RC0/T1OSO/T13CKI, 45 RC6/TX1/CK1, 46 RC7/RX1/DT1, 47 RJ4/BA0, 48 RJ5/!CE, 49 RJ0/ALE, 50 RJ1/!OE, 51 RG3/CCP4/P3D, 52 RG2/RX2/DT2, 53 RC2/ECCP1/P1A, 54 RC3/SCK1/SCL1, 55 RC4/SDI1/SDA1, 56 RC5/SDO1, 57 RB7/KBI3/PGD, 58 RJ6/!LB, 59 VDD@2 (power), 60 VSS@3 (power), 61 RJ3/!WRH, 62 VDD@3 (power), 63 OSC1/CLKI, 64 OSC2/CLKO (out), 65 VSS@4 (power), 66 RJ2/!WRL, 67 RB6/KBI2/PGC, 68 RB5/KBI1, 69 RB4/KBI0, 70 RG1/TX2/CK2, 71 RG0/ECCP3/P3A, 72 VSSRX, 73 TPIN-, 74 TPIN+, 75 VDDRX, 76 VDDTX, 77 TPOUT-, 78 TPOUT+, 79 VSSTX, 80 RBIAS, 81 VDDPLL, 82 VSSPLL, 83 D7/AD7/PSP7/!SS2, 84 RD6/AD6/PSP6/SCK2/SCL2, 85 VSS@5 (power), 86 VDD@4 (power), 87 RD5/AD5/PSP5/SDI2/SDA2, 88 RD4/AD4/PSP4/SDO2/SD, 89 RD3/AD3/PSP3, 90 RD2/AD2/PSP2, 91 RD1/AD1/PSP1, 92 RD0/AD0/PSP0, 93 RE7/AD15/ECCP2/P2A, 94 RE6/AD14/P1B, 95 RE5/AD13/P1C, 96 RE4/AD12/P3B, 97 RE3/AD11/P3C, 98 RE2/AD10/!CS!/P2B, 99 RH0/A16, 100 RH1/A17

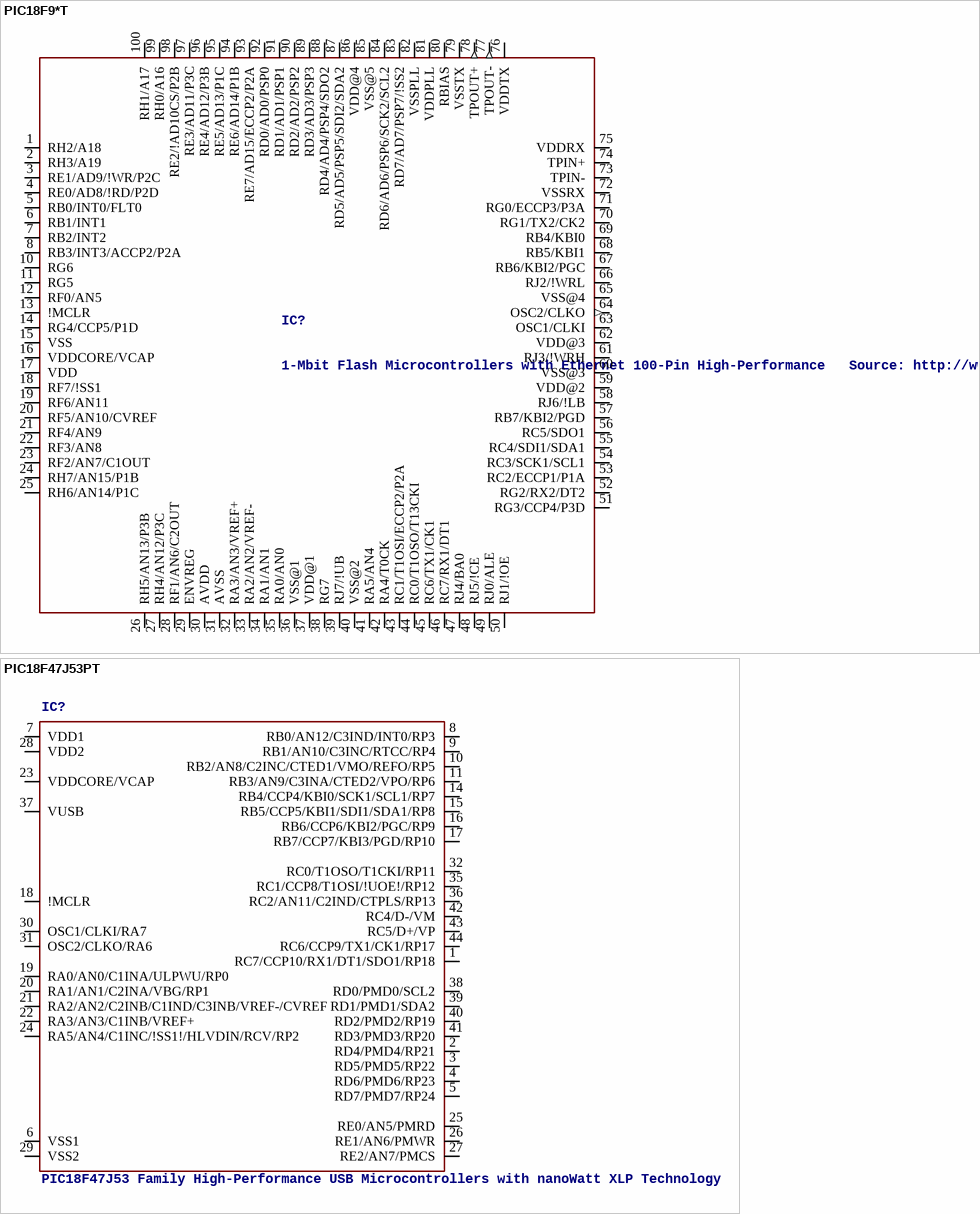
[diagram p28: symbols PIC18F9*T to PIC18F47J53PT]

## PIC18F9*T
designator IC?, comment 1-Mbit Flash Microcontrollers with Ethernet 100-Pin High-Performance   Source: http://ww1.microchip.com/downloads/en/DeviceDoc/39762c.pdf
MPN: PIC18F96J60T-I/PT; MPN: PIC18F96J65T-I/PT; MPN: PIC18F97J60T-I/PT; OC_FARNELL: 1332292; OC_NEWARK: 54M5051; OC_FARNELL: 1564573; OC_NEWARK: 74K8624; OC_FARNELL: 1439573; OC_NEWARK: 59M1140
footprint TQFP100-14X14
pins: 1 RH2/A18, 2 RH3/A19, 3 RE1/AD9/!WR/P2C, 4 RE0/AD8/!RD/P2D, 5 RB0/INT0/FLT0, 6 RB1/INT1, 7 RB2/INT2, 8 RB3/INT3/ACCP2/P2A, 10 RG6, 11 RG5, 12 RF0/AN5, 13 !MCLR, 14 RG4/CCP5/P1D, 15 VSS (power), 16 VDDCORE/VCAP (power), 17 VDD (power), 18 RF7/!SS1, 19 RF6/AN11, 20 RF5/AN10/CVREF, 21 RF4/AN9, 22 RF3/AN8, 23 RF2/AN7/C1OUT, 24 RH7/AN15/P1B, 25 RH6/AN14/P1C, 26 RH5/AN13/P3B, 27 RH4/AN12/P3C, 28 RF1/AN6/C2OUT, 29 ENVREG, 30 AVDD (power), 31 AVSS (power), 32 RA3/AN3/VREF+, 33 RA2/AN2/VREF-, 34 RA1/AN1, 35 RA0/AN0, 36 VSS@1 (power), 37 VDD@1 (power), 38 RG7, 39 RJ7/!UB, 40 VSS@2 (power), 41 RA5/AN4, 42 RA4/T0CK, 43 RC1/T1OSI/ECCP2/P2A, 44 RC0/T1OSO/T13CKI, 45 RC6/TX1/CK1, 46 RC7/RX1/DT1, 47 RJ4/BA0, 48 RJ5/!CE, 49 RJ0/ALE, 50 RJ1/!OE, 51 RG3/CCP4/P3D, 52 RG2/RX2/DT2, 53 RC2/ECCP1/P1A, 54 RC3/SCK1/SCL1, 55 RC4/SDI1/SDA1, 56 RC5/SDO1, 57 RB7/KBI2/PGD, 58 RJ6/!LB, 59 VDD@2 (power), 60 VSS@3 (power), 61 RJ3/!WRH, 62 VDD@3 (power), 63 OSC1/CLKI, 64 OSC2/CLKO (out), 65 VSS@4 (power), 66 RJ2/!WRL, 67 RB6/KBI2/PGC, 68 RB5/KBI1, 69 RB4/KBI0, 70 RG1/TX2/CK2, 71 RG0/ECCP3/P3A, 72 VSSRX (power), 73 TPIN-, 74 TPIN+, 75 VDDRX (power), 76 VDDTX (power), 77 TPOUT- (out), 78 TPOUT+ (out), 79 VSSTX (power), 80 RBIAS, 81 VDDPLL (power), 82 VSSPLL (power), 83 RD7/AD7/PSP7/!SS2, 84 RD6/AD6/PSP6/SCK2/SCL2, 85 VSS@5 (power), 86 VDD@4 (power), 87 RD5/AD5/PSP5/SDI2/SDA2, 88 RD4/AD4/PSP4/SDO2, 89 RD3/AD3/PSP3, 90 RD2/AD2/PSP2, 91 RD1/AD1/PSP1, 92 RD0/AD0/PSP0, 93 RE7/AD15/ECCP2/P2A, 94 RE6/AD14/P1B, 95 RE5/AD13/P1C, 96 RE4/AD12/P3B, 97 RE3/AD11/P3C, 98 RE2/!AD10CS/P2B, 99 RH0/A16, 100 RH1/A17

## PIC18F47J53PT
designator IC?, comment PIC18F47J53 Family High-Performance USB Microcontrollers with nanoWatt XLP Technology   Source:  Data sheet
MPN: PIC18F47J53-I/PT; OC_FARNELL: 1815001; OC_NEWARK: 63R7856
footprint TQFP44
pins: 1 RC7/CCP10/RX1/DT1/SDO1/RP18, 2 RD4/PMD4/RP21, 3 RD5/PMD5/RP22, 4 RD6/PMD6/RP23, 5 RD7/PMD7/RP24, 6 VSS1, 7 VDD1, 8 RB0/AN12/C3IND/INT0/RP3, 9 RB1/AN10/C3INC/RTCC/RP4, 10 RB2/AN8/C2INC/CTED1/VMO/REFO/RP5, 11 RB3/AN9/C3INA/CTED2/VPO/RP6, 14 RB4/CCP4/KBI0/SCK1/SCL1/RP7, 15 RB5/CCP5/KBI1/SDI1/SDA1/RP8, 16 RB6/CCP6/KBI2/PGC/RP9, 17 RB7/CCP7/KBI3/PGD/RP10, 18 !MCLR, 19 RA0/AN0/C1INA/ULPWU/RP0, 20 RA1/AN1/C2INA/VBG/RP1, 21 RA2/AN2/C2INB/C1IND/C3INB/VREF-/CVREF, 22 RA3/AN3/C1INB/VREF+, 23 VDDCORE/VCAP, 24 RA5/AN4/C1INC/!SS1!/HLVDIN/RCV/RP2, 25 RE0/AN5/PMRD, 26 RE1/AN6/PMWR, 27 RE2/AN7/PMCS, 28 VDD2, 29 VSS2, 30 OSC1/CLKI/RA7, 31 OSC2/CLKO/RA6, 32 RC0/T1OSO/T1CKI/RP11, 35 RC1/CCP8/T1OSI/!UOE!/RP12, 36 RC2/AN11/C2IND/CTPLS/RP13, 37 VUSB, 38 RD0/PMD0/SCL2, 39 RD1/PMD1/SDA2, 40 RD2/PMD2/RP19, 41 RD3/PMD3/RP20, 42 RC4/D-/VM, 43 RC5/D+/VP, 44 RC6/CCP9/TX1/CK1/RP17

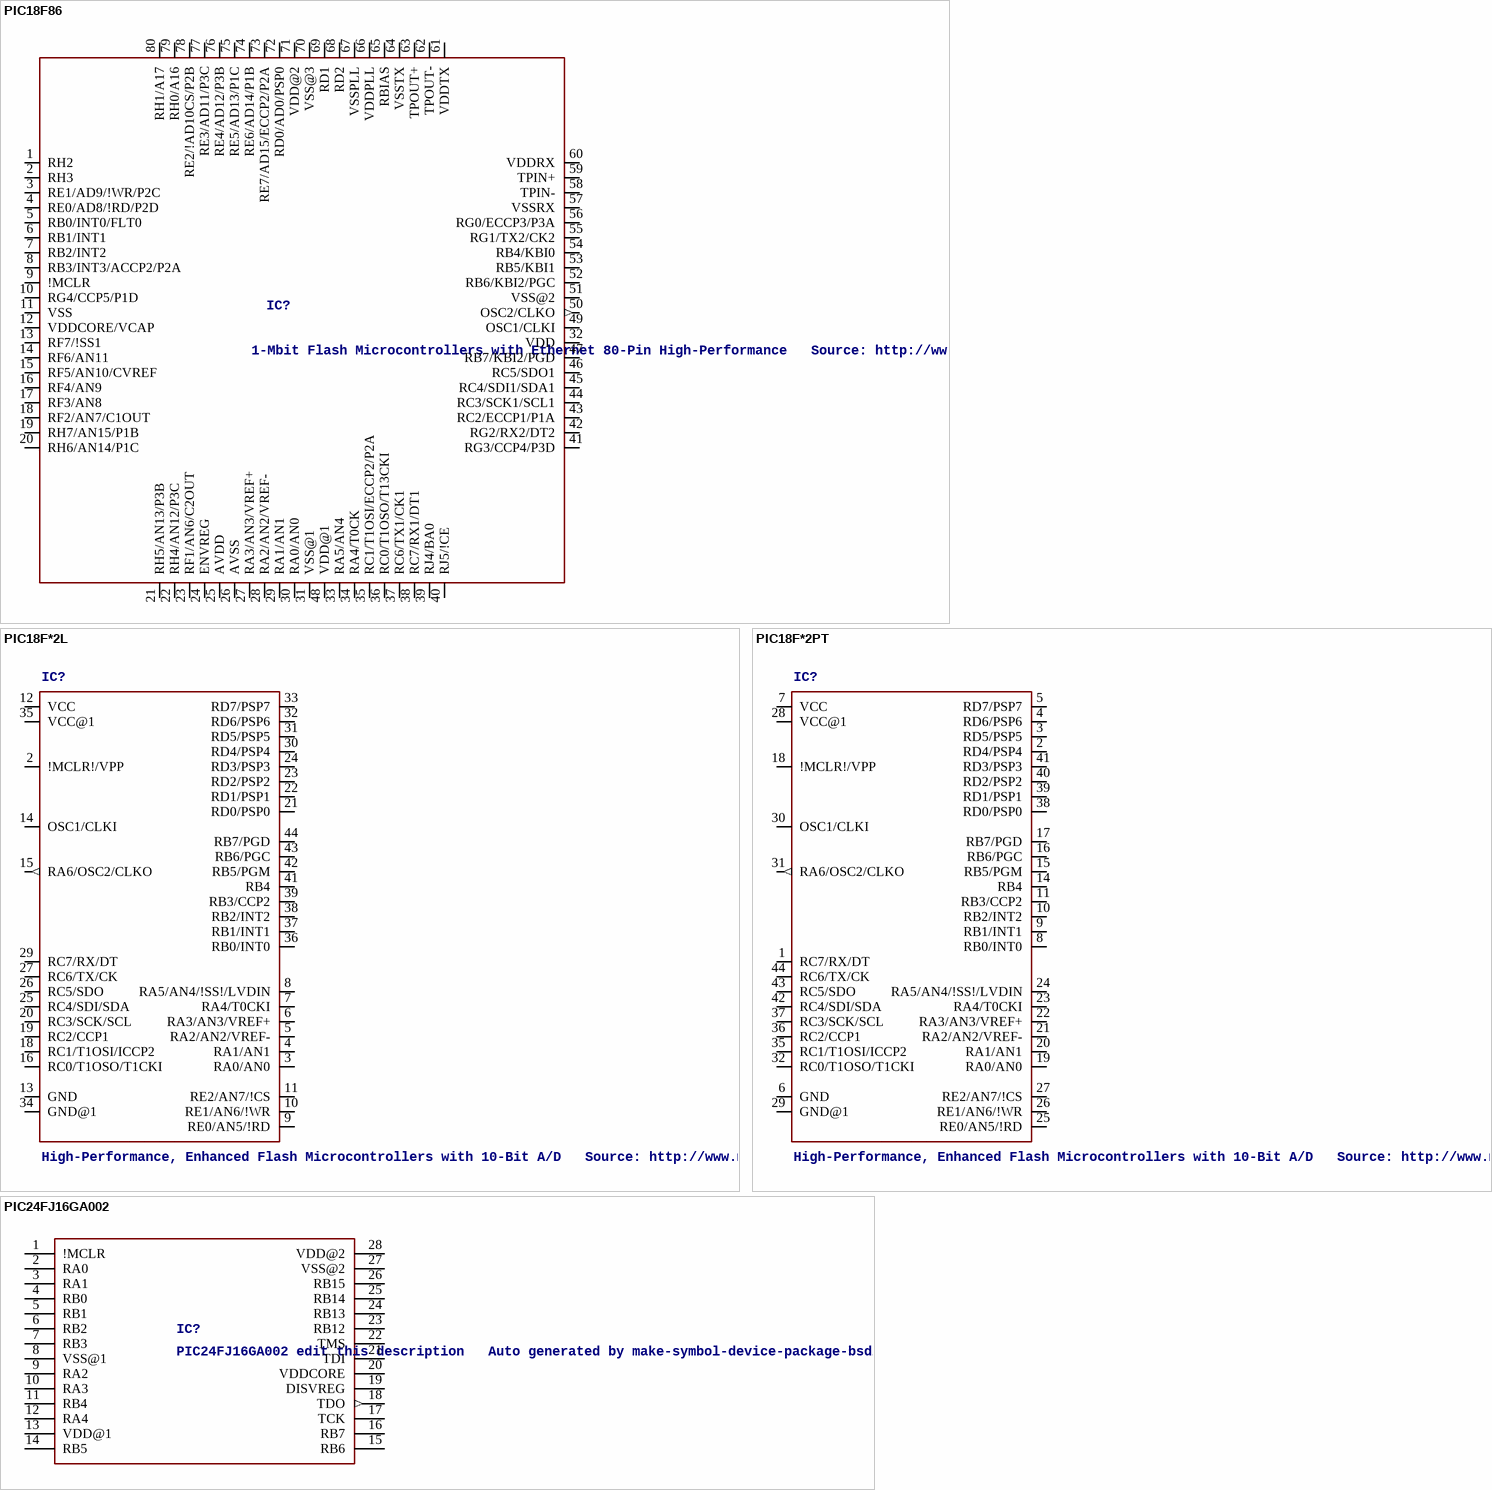
[diagram p29: symbols PIC18F86 to PIC24FJ16GA002]

## PIC18F86
designator IC?, comment 1-Mbit Flash Microcontrollers with Ethernet 80-Pin High-Performance   Source: http://ww1.microchip.com/downloads/en/DeviceDoc/39762c.pdf
OC_FARNELL: unknown; OC_NEWARK: unknown
footprint TQFP80-12X12
pins: 1 RH2, 2 RH3, 3 RE1/AD9/!WR/P2C, 4 RE0/AD8/!RD/P2D, 5 RB0/INT0/FLT0, 6 RB1/INT1, 7 RB2/INT2, 8 RB3/INT3/ACCP2/P2A, 9 !MCLR, 10 RG4/CCP5/P1D, 11 VSS (power), 12 VDDCORE/VCAP (power), 13 RF7/!SS1, 14 RF6/AN11, 15 RF5/AN10/CVREF, 16 RF4/AN9, 17 RF3/AN8, 18 RF2/AN7/C1OUT, 19 RH7/AN15/P1B, 20 RH6/AN14/P1C, 21 RH5/AN13/P3B, 22 RH4/AN12/P3C, 23 RF1/AN6/C2OUT, 24 ENVREG, 25 AVDD (power), 26 AVSS (power), 27 RA3/AN3/VREF+, 28 RA2/AN2/VREF-, 29 RA1/AN1, 30 RA0/AN0, 31 VSS@1 (power), 32 VDD (power), 33 RA5/AN4, 34 RA4/T0CK, 35 RC1/T1OSI/ECCP2/P2A, 36 RC0/T1OSO/T13CKI, 37 RC6/TX1/CK1, 38 RC7/RX1/DT1, 39 RJ4/BA0, 40 RJ5/!CE, 41 RG3/CCP4/P3D, 42 RG2/RX2/DT2, 43 RC2/ECCP1/P1A, 44 RC3/SCK1/SCL1, 45 RC4/SDI1/SDA1, 46 RC5/SDO1, 47 RB7/KBI2/PGD, 48 VDD@1 (power), 49 OSC1/CLKI, 50 OSC2/CLKO (out), 51 VSS@2 (power), 52 RB6/KBI2/PGC, 53 RB5/KBI1, 54 RB4/KBI0, 55 RG1/TX2/CK2, 56 RG0/ECCP3/P3A, 57 VSSRX, 58 TPIN-, 59 TPIN+, 60 VDDRX, 61 VDDTX, 62 TPOUT-, 63 TPOUT+, 64 VSSTX, 65 RBIAS, 66 VDDPLL, 67 VSSPLL, 68 RD2, 69 RD1, 70 VSS@3 (power), 71 VDD@2 (power), 72 RD0/AD0/PSP0, 73 RE7/AD15/ECCP2/P2A, 74 RE6/AD14/P1B, 75 RE5/AD13/P1C, 76 RE4/AD12/P3B, 77 RE3/AD11/P3C, 78 RE2/!AD10CS/P2B, 79 RH0/A16, 80 RH1/A17

## PIC18F*2L
designator IC?, comment High-Performance, Enhanced Flash Microcontrollers with 10-Bit A/D   Source: http://www.microchip.com .. 39564c.pdf
MPN: PIC18F442-E/L; MPN: PIC18F452I/L; MF: MICROCHIP; OC_FARNELL: 9762175; OC_NEWARK: 72C4322; OC_FARNELL: 9762221; OC_NEWARK: 34C8340
footprint PLCC-44
pins: 1 NC, 2 !MCLR!/VPP, 3 RA0/AN0, 4 RA1/AN1, 5 RA2/AN2/VREF-, 6 RA3/AN3/VREF+, 7 RA4/T0CKI, 8 RA5/AN4/!SS!/LVDIN, 9 RE0/AN5/!RD, 10 RE1/AN6/!WR, 11 RE2/AN7/!CS, 12 VCC (power), 13 GND (power), 14 OSC1/CLKI, 15 RA6/OSC2/CLKO (out), 16 RC0/T1OSO/T1CKI, 17 NC@1, 18 RC1/T1OSI/ICCP2, 19 RC2/CCP1, 20 RC3/SCK/SCL, 21 RD0/PSP0, 22 RD1/PSP1, 23 RD2/PSP2, 24 RD3/PSP3, 25 RC4/SDI/SDA, 26 RC5/SDO, 27 RC6/TX/CK, 28 NC@2, 29 RC7/RX/DT, 30 RD4/PSP4, 31 RD5/PSP5, 32 RD6/PSP6, 33 RD7/PSP7, 34 GND@1 (power), 35 VCC@1 (power), 36 RB0/INT0, 37 RB1/INT1, 38 RB2/INT2, 39 RB3/CCP2, 40 NC@3, 41 RB4, 42 RB5/PGM, 43 RB6/PGC, 44 RB7/PGD

## PIC18F*2PT
designator IC?, comment High-Performance, Enhanced Flash Microcontrollers with 10-Bit A/D   Source: http://www.microchip.com .. 39564c.pdf
MPN: PIC18F442-I/PT; MPN: PIC18F452-E/PT; MF: MICROCHIP; OC_FARNELL: 1084324; OC_NEWARK: 61K3472; OC_FARNELL: 9762248; OC_NEWARK: 72C4329
footprint TQFP44
pins: 1 RC7/RX/DT, 2 RD4/PSP4, 3 RD5/PSP5, 4 RD6/PSP6, 5 RD7/PSP7, 6 GND (power), 7 VCC (power), 8 RB0/INT0, 9 RB1/INT1, 10 RB2/INT2, 11 RB3/CCP2, 12 NC, 13 NC@1, 14 RB4, 15 RB5/PGM, 16 RB6/PGC, 17 RB7/PGD, 18 !MCLR!/VPP, 19 RA0/AN0, 20 RA1/AN1, 21 RA2/AN2/VREF-, 22 RA3/AN3/VREF+, 23 RA4/T0CKI, 24 RA5/AN4/!SS!/LVDIN, 25 RE0/AN5/!RD, 26 RE1/AN6/!WR, 27 RE2/AN7/!CS, 28 VCC@1 (power), 29 GND@1 (power), 30 OSC1/CLKI, 31 RA6/OSC2/CLKO (out), 32 RC0/T1OSO/T1CKI, 33 NC@2, 34 NC@3, 35 RC1/T1OSI/ICCP2, 36 RC2/CCP1, 37 RC3/SCK/SCL, 38 RD0/PSP0, 39 RD1/PSP1, 40 RD2/PSP2, 41 RD3/PSP3, 42 RC4/SDI/SDA, 43 RC5/SDO, 44 RC6/TX/CK

## PIC24FJ16GA002
designator IC?, comment PIC24FJ16GA002 edit this description   Auto generated by make-symbol-device-package-bsdl.ulp Rev. 25 Source: PIC24FJ16GA002.bsd
MPN: PIC24FJ16GA002-I/SP; OC_FARNELL: 1816078; OC_NEWARK: 40M1427
footprint DIL28-3
pins: 1 !MCLR, 2 RA0, 3 RA1, 4 RB0, 5 RB1, 6 RB2, 7 RB3, 8 VSS@1 (power), 9 RA2, 10 RA3, 11 RB4, 12 RA4, 13 VDD@1 (power), 14 RB5, 15 RB6, 16 RB7, 17 TCK, 18 TDO (out), 19 DISVREG, 20 VDDCORE (power), 21 TDI, 22 TMS, 23 RB12, 24 RB13, 25 RB14, 26 RB15, 27 VSS@2 (power), 28 VDD@2 (power)

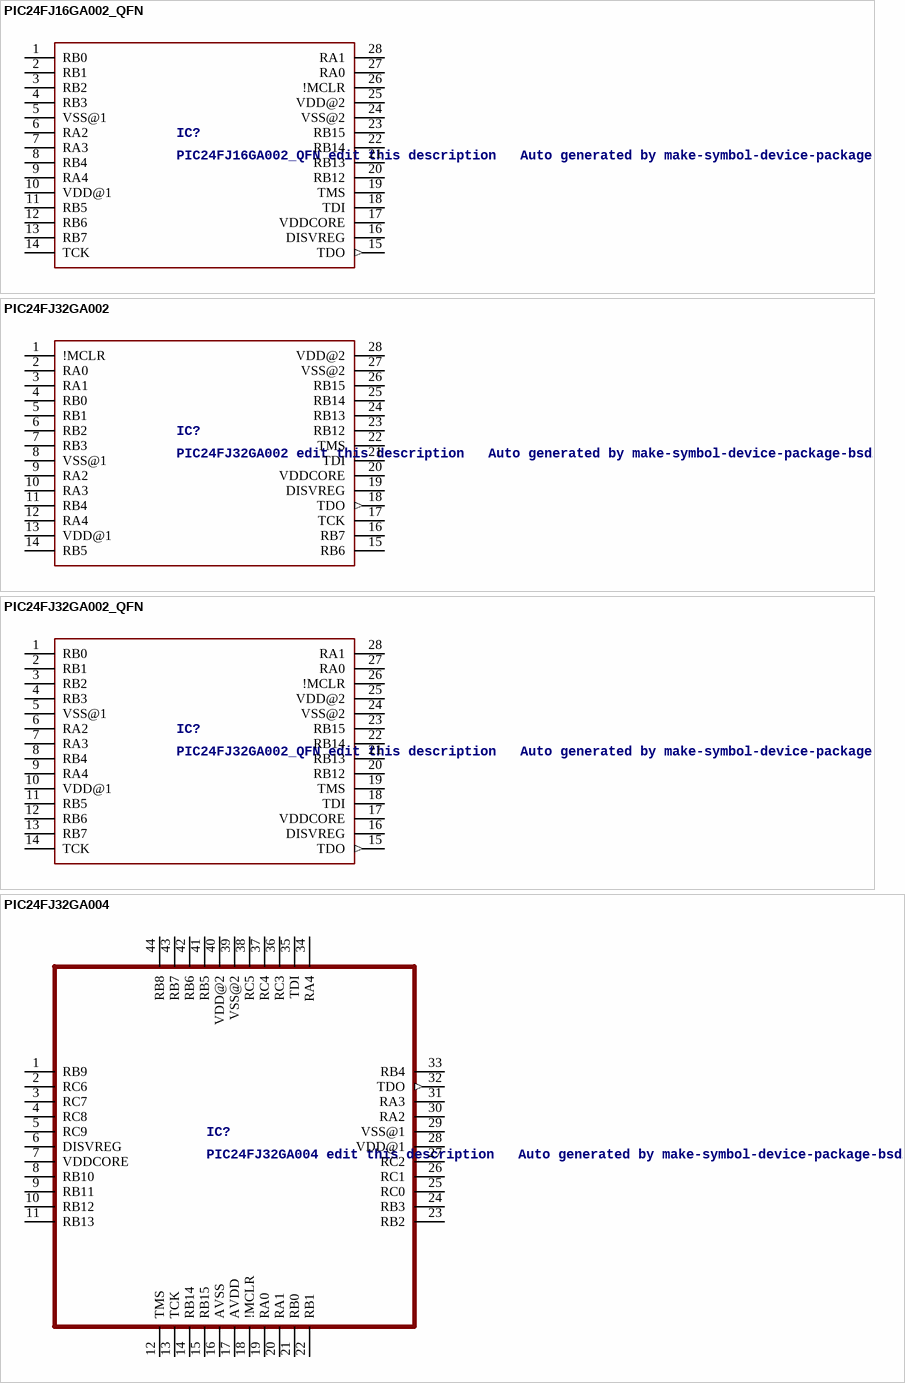
[diagram p30: symbols PIC24FJ16GA002_QFN to PIC24FJ32GA004]

## PIC24FJ16GA002_QFN
designator IC?, comment PIC24FJ16GA002_QFN edit this description   Auto generated by make-symbol-device-package-bsdl.ulp Rev. 25 Source: PIC24FJ16GA002_QFN.bsd
MPN: PIC24FJ16GA002-I/ML; OC_FARNELL: unknown; OC_NEWARK: 40M1425
footprint QFN28-ML_6X6MM
pins: 1 RB0, 2 RB1, 3 RB2, 4 RB3, 5 VSS@1 (power), 6 RA2, 7 RA3, 8 RB4, 9 RA4, 10 VDD@1 (power), 11 RB5, 12 RB6, 13 RB7, 14 TCK, 15 TDO (out), 16 DISVREG, 17 VDDCORE (power), 18 TDI, 19 TMS, 20 RB12, 21 RB13, 22 RB14, 23 RB15, 24 VSS@2 (power), 25 VDD@2 (power), 26 !MCLR, 27 RA0, 28 RA1

## PIC24FJ32GA002
designator IC?, comment PIC24FJ32GA002 edit this description   Auto generated by make-symbol-device-package-bsdl.ulp Rev. 25 Source: PIC24FJ32GA002.bsd
MPN: PIC24FJ32GA002-I/SP; OC_FARNELL: 1332294; OC_NEWARK: 88K6123
footprint DIL28-3
pins: 1 !MCLR, 2 RA0, 3 RA1, 4 RB0, 5 RB1, 6 RB2, 7 RB3, 8 VSS@1 (power), 9 RA2, 10 RA3, 11 RB4, 12 RA4, 13 VDD@1 (power), 14 RB5, 15 RB6, 16 RB7, 17 TCK, 18 TDO (out), 19 DISVREG, 20 VDDCORE (power), 21 TDI, 22 TMS, 23 RB12, 24 RB13, 25 RB14, 26 RB15, 27 VSS@2 (power), 28 VDD@2 (power)

## PIC24FJ32GA002_QFN
designator IC?, comment PIC24FJ32GA002_QFN edit this description   Auto generated by make-symbol-device-package-bsdl.ulp Rev. 25 Source: PIC24FJ32GA002_QFN.bsd
MPN: PIC24FJ32GA002-I/ML; OC_FARNELL: unknown; OC_NEWARK: 88K6121
footprint QFN28-ML_6X6MM
pins: 1 RB0, 2 RB1, 3 RB2, 4 RB3, 5 VSS@1 (power), 6 RA2, 7 RA3, 8 RB4, 9 RA4, 10 VDD@1 (power), 11 RB5, 12 RB6, 13 RB7, 14 TCK, 15 TDO (out), 16 DISVREG, 17 VDDCORE (power), 18 TDI, 19 TMS, 20 RB12, 21 RB13, 22 RB14, 23 RB15, 24 VSS@2 (power), 25 VDD@2 (power), 26 !MCLR, 27 RA0, 28 RA1

## PIC24FJ32GA004
designator IC?, comment PIC24FJ32GA004 edit this description   Auto generated by make-symbol-device-package-bsdl.ulp Rev. 25 Source: PIC24FJ32GA004.bsd
MPN: PIC24FJ32GA004-E/PT; OC_FARNELL: 1332295; OC_NEWARK: 98M1915
footprint TQFP44
pins: 1 RB9, 2 RC6, 3 RC7, 4 RC8, 5 RC9, 6 DISVREG, 7 VDDCORE (power), 8 RB10, 9 RB11, 10 RB12, 11 RB13, 12 TMS, 13 TCK, 14 RB14, 15 RB15, 16 AVSS (power), 17 AVDD (power), 18 !MCLR, 19 RA0, 20 RA1, 21 RB0, 22 RB1, 23 RB2, 24 RB3, 25 RC0, 26 RC1, 27 RC2, 28 VDD@1 (power), 29 VSS@1 (power), 30 RA2, 31 RA3, 32 TDO (out), 33 RB4, 34 RA4, 35 TDI, 36 RC3, 37 RC4, 38 RC5, 39 VSS@2 (power), 40 VDD@2 (power), 41 RB5, 42 RB6, 43 RB7, 44 RB8

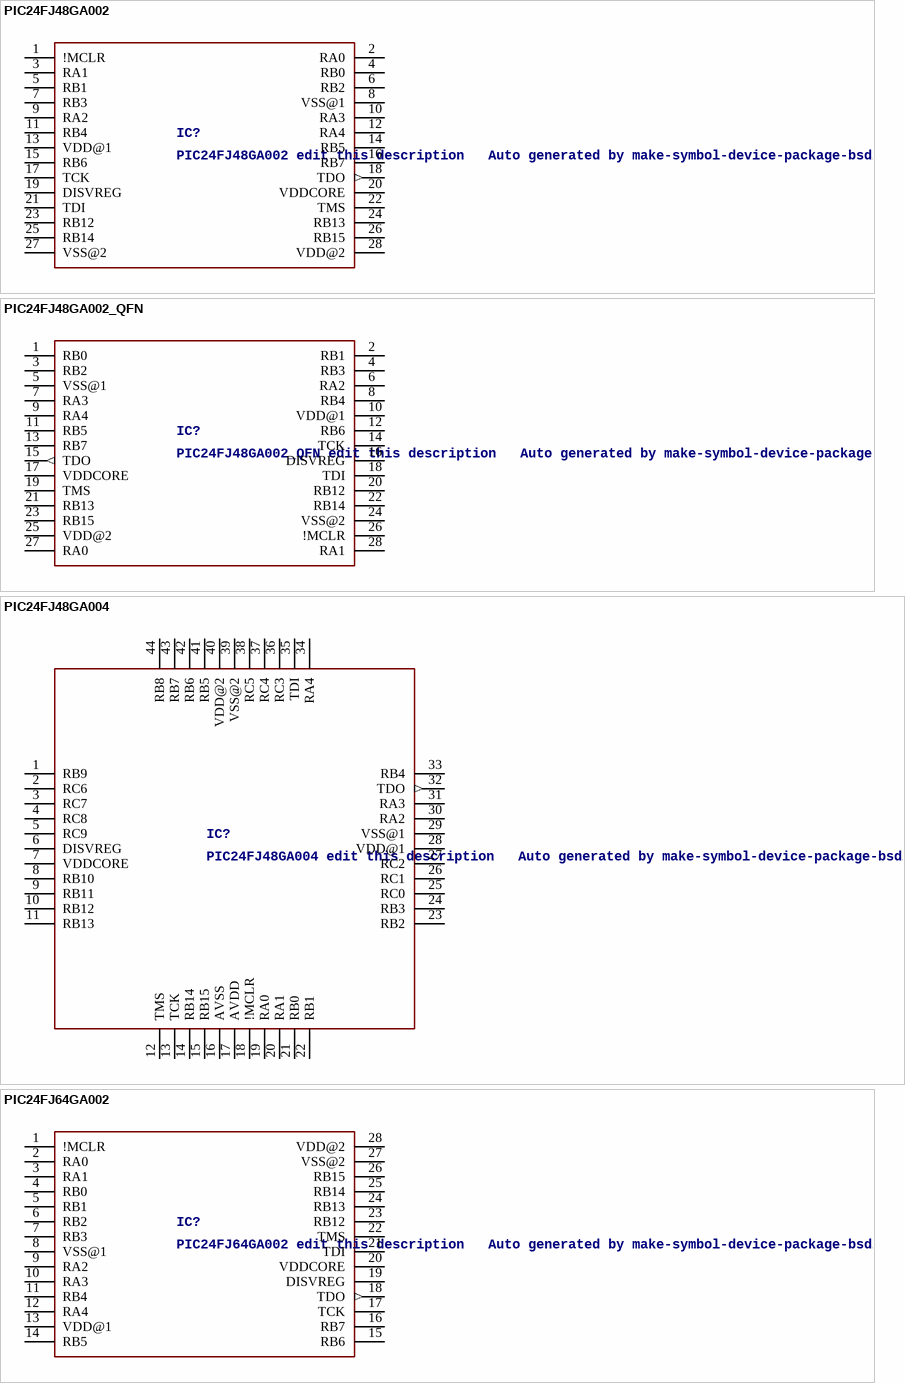
[diagram p31: symbols PIC24FJ48GA002 to PIC24FJ64GA002]

## PIC24FJ48GA002
designator IC?, comment PIC24FJ48GA002 edit this description   Auto generated by make-symbol-device-package-bsdl.ulp Rev. 25 Source: PIC24FJ48GA002.bsd
MPN: PIC24FJ48GA002-I/SP; OC_FARNELL: unknown; OC_NEWARK: 40M1440
footprint DIL28-3
pins: 1 !MCLR, 2 RA0, 3 RA1, 4 RB0, 5 RB1, 6 RB2, 7 RB3, 8 VSS@1 (power), 9 RA2, 10 RA3, 11 RB4, 12 RA4, 13 VDD@1 (power), 14 RB5, 15 RB6, 16 RB7, 17 TCK, 18 TDO (out), 19 DISVREG, 20 VDDCORE (power), 21 TDI, 22 TMS, 23 RB12, 24 RB13, 25 RB14, 26 RB15, 27 VSS@2 (power), 28 VDD@2 (power)

## PIC24FJ48GA002_QFN
designator IC?, comment PIC24FJ48GA002_QFN edit this description   Auto generated by make-symbol-device-package-bsdl.ulp Rev. 25 Source: PIC24FJ48GA002_QFN.bsd
MPN: PIC24FJ48GA002-E/ML; OC_FARNELL: unknown; OC_NEWARK: 98M1916
footprint QFN28-ML_6X6MM
pins: 1 RB0, 2 RB1, 3 RB2, 4 RB3, 5 VSS@1 (power), 6 RA2, 7 RA3, 8 RB4, 9 RA4, 10 VDD@1 (power), 11 RB5, 12 RB6, 13 RB7, 14 TCK, 15 TDO (out), 16 DISVREG, 17 VDDCORE (power), 18 TDI, 19 TMS, 20 RB12, 21 RB13, 22 RB14, 23 RB15, 24 VSS@2 (power), 25 VDD@2 (power), 26 !MCLR, 27 RA0, 28 RA1

## PIC24FJ48GA004
designator IC?, comment PIC24FJ48GA004 edit this description   Auto generated by make-symbol-device-package-bsdl.ulp Rev. 25 Source: PIC24FJ48GA004.bsd
MPN: PIC24FJ48GA004-I/PT; OC_FARNELL: unknown; OC_NEWARK: 40M1446
footprint TQFP44
pins: 1 RB9, 2 RC6, 3 RC7, 4 RC8, 5 RC9, 6 DISVREG, 7 VDDCORE (power), 8 RB10, 9 RB11, 10 RB12, 11 RB13, 12 TMS, 13 TCK, 14 RB14, 15 RB15, 16 AVSS (power), 17 AVDD (power), 18 !MCLR, 19 RA0, 20 RA1, 21 RB0, 22 RB1, 23 RB2, 24 RB3, 25 RC0, 26 RC1, 27 RC2, 28 VDD@1 (power), 29 VSS@1 (power), 30 RA2, 31 RA3, 32 TDO (out), 33 RB4, 34 RA4, 35 TDI, 36 RC3, 37 RC4, 38 RC5, 39 VSS@2 (power), 40 VDD@2 (power), 41 RB5, 42 RB6, 43 RB7, 44 RB8

## PIC24FJ64GA002
designator IC?, comment PIC24FJ64GA002 edit this description   Auto generated by make-symbol-device-package-bsdl.ulp Rev. 25 Source: PIC24FJ64GA002.bsd
MPN: PIC24FJ64GA002-I/SP; OC_FARNELL: 1332298; OC_NEWARK: 88K6132
footprint DIL28-3
pins: 1 !MCLR, 2 RA0, 3 RA1, 4 RB0, 5 RB1, 6 RB2, 7 RB3, 8 VSS@1 (power), 9 RA2, 10 RA3, 11 RB4, 12 RA4, 13 VDD@1 (power), 14 RB5, 15 RB6, 16 RB7, 17 TCK, 18 TDO (out), 19 DISVREG, 20 VDDCORE (power), 21 TDI, 22 TMS, 23 RB12, 24 RB13, 25 RB14, 26 RB15, 27 VSS@2 (power), 28 VDD@2 (power)

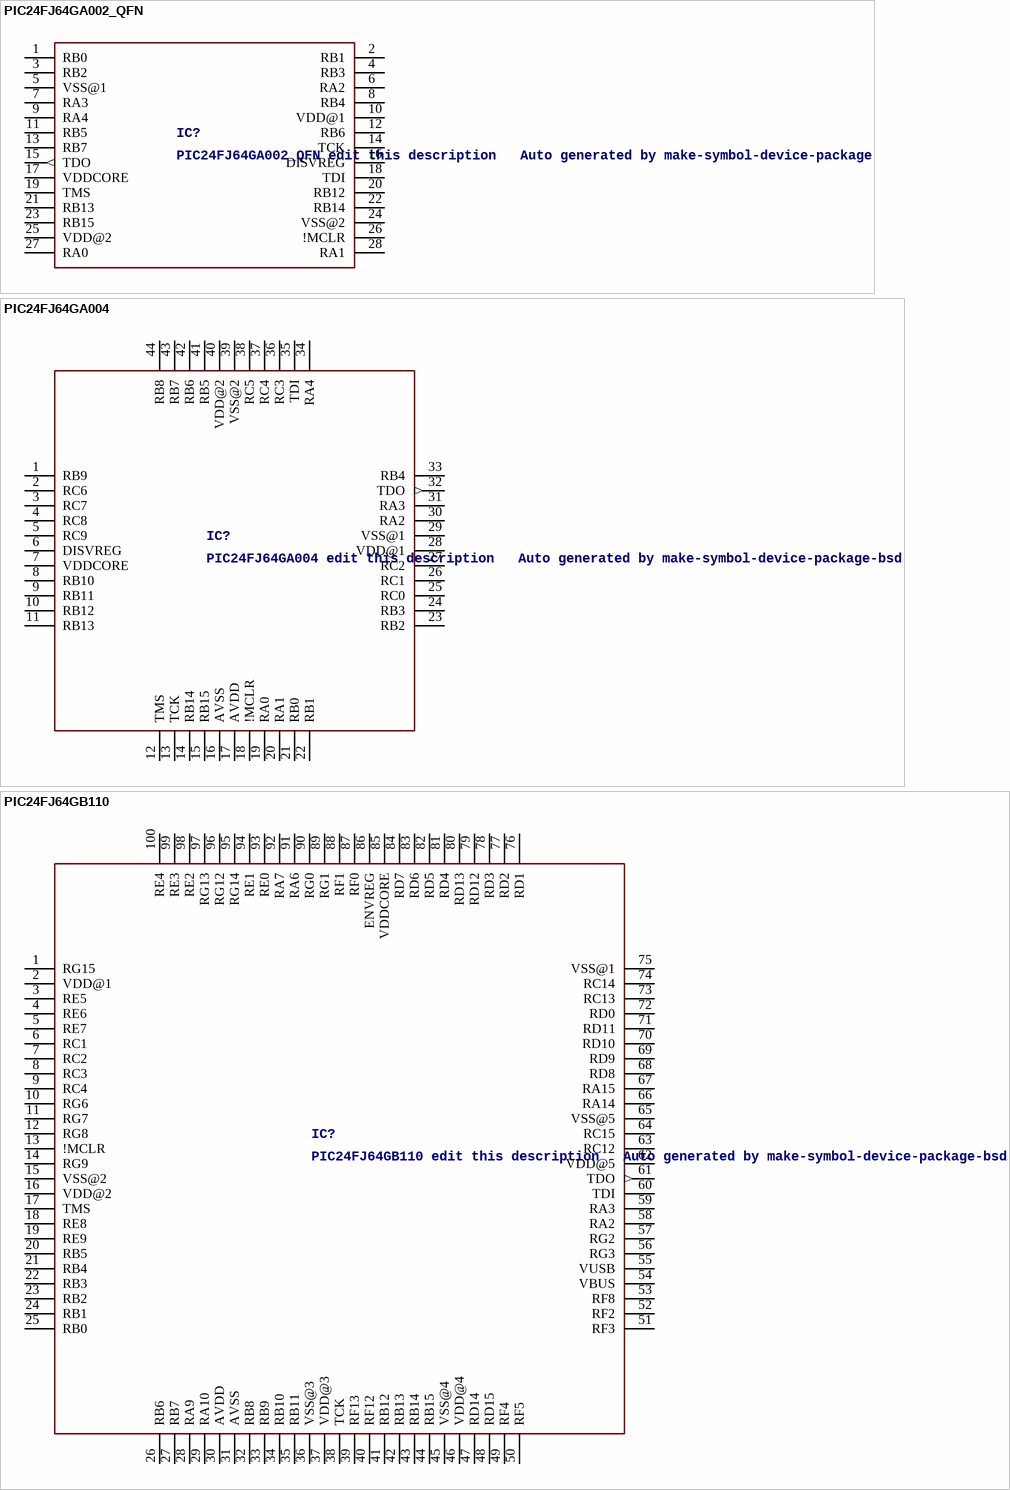
[diagram p32: symbols PIC24FJ64GA002_QFN to PIC24FJ64GB110]

## PIC24FJ64GA002_QFN
designator IC?, comment PIC24FJ64GA002_QFN edit this description   Auto generated by make-symbol-device-package-bsdl.ulp Rev. 25 Source: PIC24FJ64GA002_QFN.bsd
MPN: PIC24FJ64GA002-E/ML; OC_FARNELL: 1818728; OC_NEWARK: 98M1922
footprint QFN28-ML_6X6MM
pins: 1 RB0, 2 RB1, 3 RB2, 4 RB3, 5 VSS@1 (power), 6 RA2, 7 RA3, 8 RB4, 9 RA4, 10 VDD@1 (power), 11 RB5, 12 RB6, 13 RB7, 14 TCK, 15 TDO (out), 16 DISVREG, 17 VDDCORE (power), 18 TDI, 19 TMS, 20 RB12, 21 RB13, 22 RB14, 23 RB15, 24 VSS@2 (power), 25 VDD@2 (power), 26 !MCLR, 27 RA0, 28 RA1

## PIC24FJ64GA004
designator IC?, comment PIC24FJ64GA004 edit this description   Auto generated by make-symbol-device-package-bsdl.ulp Rev. 25 Source: PIC24FJ64GA004.bsd
MPN: PIC24FJ64GA004-E/PT; OC_FARNELL: 1332299; OC_NEWARK: 98M1927
footprint TQFP44
pins: 1 RB9, 2 RC6, 3 RC7, 4 RC8, 5 RC9, 6 DISVREG, 7 VDDCORE (power), 8 RB10, 9 RB11, 10 RB12, 11 RB13, 12 TMS, 13 TCK, 14 RB14, 15 RB15, 16 AVSS (power), 17 AVDD (power), 18 !MCLR, 19 RA0, 20 RA1, 21 RB0, 22 RB1, 23 RB2, 24 RB3, 25 RC0, 26 RC1, 27 RC2, 28 VDD@1 (power), 29 VSS@1 (power), 30 RA2, 31 RA3, 32 TDO (out), 33 RB4, 34 RA4, 35 TDI, 36 RC3, 37 RC4, 38 RC5, 39 VSS@2 (power), 40 VDD@2 (power), 41 RB5, 42 RB6, 43 RB7, 44 RB8

## PIC24FJ64GB110
designator IC?, comment PIC24FJ64GB110 edit this description   Auto generated by make-symbol-device-package-bsdl.ulp Rev. 25 Source: PIC24FJ64GB110.bsd
MPN: PIC24FJ64GB110-I/PT; OC_FARNELL: 1576875; OC_NEWARK: 54M5142
footprint TQFP100-14X14
pins: 1 RG15, 2 VDD@1 (power), 3 RE5, 4 RE6, 5 RE7, 6 RC1, 7 RC2, 8 RC3, 9 RC4, 10 RG6, 11 RG7, 12 RG8, 13 !MCLR, 14 RG9, 15 VSS@2 (power), 16 VDD@2 (power), 17 TMS, 18 RE8, 19 RE9, 20 RB5, 21 RB4, 22 RB3, 23 RB2, 24 RB1, 25 RB0, 26 RB6, 27 RB7, 28 RA9, 29 RA10, 30 AVDD (power), 31 AVSS (power), 32 RB8, 33 RB9, 34 RB10, 35 RB11, 36 VSS@3 (power), 37 VDD@3 (power), 38 TCK, 39 RF13, 40 RF12, 41 RB12, 42 RB13, 43 RB14, 44 RB15, 45 VSS@4 (power), 46 VDD@4 (power), 47 RD14, 48 RD15, 49 RF4, 50 RF5, 51 RF3, 52 RF2, 53 RF8, 54 VBUS, 55 VUSB, 56 RG3, 57 RG2, 58 RA2, 59 RA3, 60 TDI, 61 TDO (out), 62 VDD@5 (power), 63 RC12, 64 RC15, 65 VSS@5 (power), 66 RA14, 67 RA15, 68 RD8, 69 RD9, 70 RD10, 71 RD11, 72 RD0, 73 RC13, 74 RC14, 75 VSS@1 (power), 76 RD1, 77 RD2, 78 RD3, 79 RD12, 80 RD13, 81 RD4, 82 RD5, 83 RD6, 84 RD7, 85 VDDCORE (power), 86 ENVREG, 87 RF0, 88 RF1, 89 RG1, 90 RG0, 91 RA6, 92 RA7, 93 RE0, 94 RE1, 95 RG14, 96 RG12, 97 RG13, 98 RE2, 99 RE3, 100 RE4

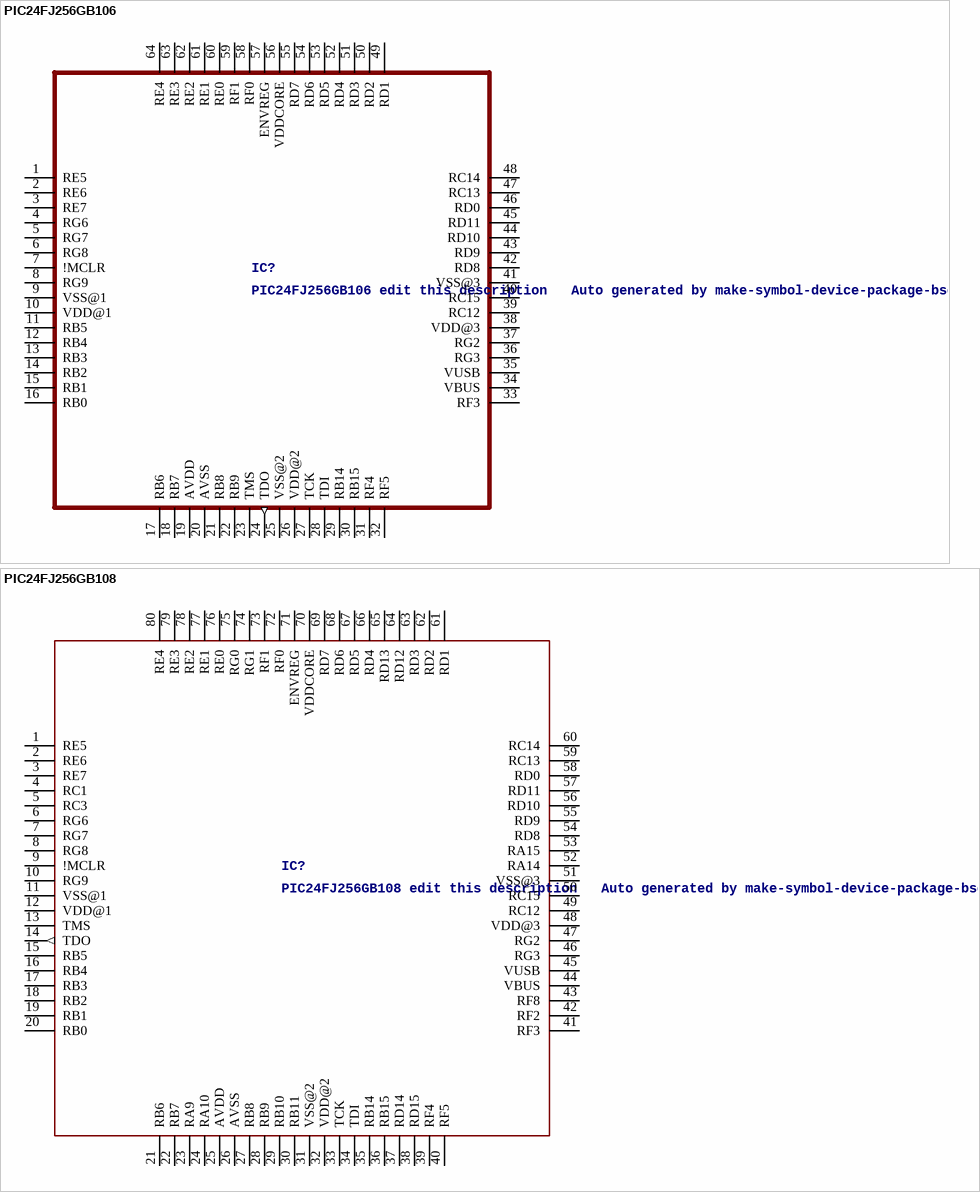
[diagram p33: symbols PIC24FJ256GB106 to PIC24FJ256GB108]

## PIC24FJ256GB106
designator IC?, comment PIC24FJ256GB106 edit this description   Auto generated by make-symbol-device-package-bsdl.ulp Rev. 25 Source: PIC24FJ256GB106.bsd
MPN: PIC24FJ256GB106-I/PT; OC_FARNELL: 1576868; OC_NEWARK: 54M5129
footprint TQFP64-10X10
pins: 1 RE5, 2 RE6, 3 RE7, 4 RG6, 5 RG7, 6 RG8, 7 !MCLR, 8 RG9, 9 VSS@1 (power), 10 VDD@1 (power), 11 RB5, 12 RB4, 13 RB3, 14 RB2, 15 RB1, 16 RB0, 17 RB6, 18 RB7, 19 AVDD (power), 20 AVSS (power), 21 RB8, 22 RB9, 23 TMS, 24 TDO (out), 25 VSS@2 (power), 26 VDD@2 (power), 27 TCK, 28 TDI, 29 RB14, 30 RB15, 31 RF4, 32 RF5, 33 RF3, 34 VBUS, 35 VUSB, 36 RG3, 37 RG2, 38 VDD@3 (power), 39 RC12, 40 RC15, 41 VSS@3 (power), 42 RD8, 43 RD9, 44 RD10, 45 RD11, 46 RD0, 47 RC13, 48 RC14, 49 RD1, 50 RD2, 51 RD3, 52 RD4, 53 RD5, 54 RD6, 55 RD7, 56 VDDCORE (power), 57 ENVREG, 58 RF0, 59 RF1, 60 RE0, 61 RE1, 62 RE2, 63 RE3, 64 RE4

## PIC24FJ256GB108
designator IC?, comment PIC24FJ256GB108 edit this description   Auto generated by make-symbol-device-package-bsdl.ulp Rev. 25 Source: PIC24FJ256GB108.bsd
MPN: PIC24FJ256GB108-I/PT; OC_FARNELL: 1576869; OC_NEWARK: 54M5131
footprint TQFP80-12X12
pins: 1 RE5, 2 RE6, 3 RE7, 4 RC1, 5 RC3, 6 RG6, 7 RG7, 8 RG8, 9 !MCLR, 10 RG9, 11 VSS@1 (power), 12 VDD@1 (power), 13 TMS, 14 TDO (out), 15 RB5, 16 RB4, 17 RB3, 18 RB2, 19 RB1, 20 RB0, 21 RB6, 22 RB7, 23 RA9, 24 RA10, 25 AVDD (power), 26 AVSS (power), 27 RB8, 28 RB9, 29 RB10, 30 RB11, 31 VSS@2 (power), 32 VDD@2 (power), 33 TCK, 34 TDI, 35 RB14, 36 RB15, 37 RD14, 38 RD15, 39 RF4, 40 RF5, 41 RF3, 42 RF2, 43 RF8, 44 VBUS, 45 VUSB, 46 RG3, 47 RG2, 48 VDD@3 (power), 49 RC12, 50 RC15, 51 VSS@3 (power), 52 RA14, 53 RA15, 54 RD8, 55 RD9, 56 RD10, 57 RD11, 58 RD0, 59 RC13, 60 RC14, 61 RD1, 62 RD2, 63 RD3, 64 RD12, 65 RD13, 66 RD4, 67 RD5, 68 RD6, 69 RD7, 70 VDDCORE (power), 71 ENVREG, 72 RF0, 73 RF1, 74 RG1, 75 RG0, 76 RE0, 77 RE1, 78 RE2, 79 RE3, 80 RE4

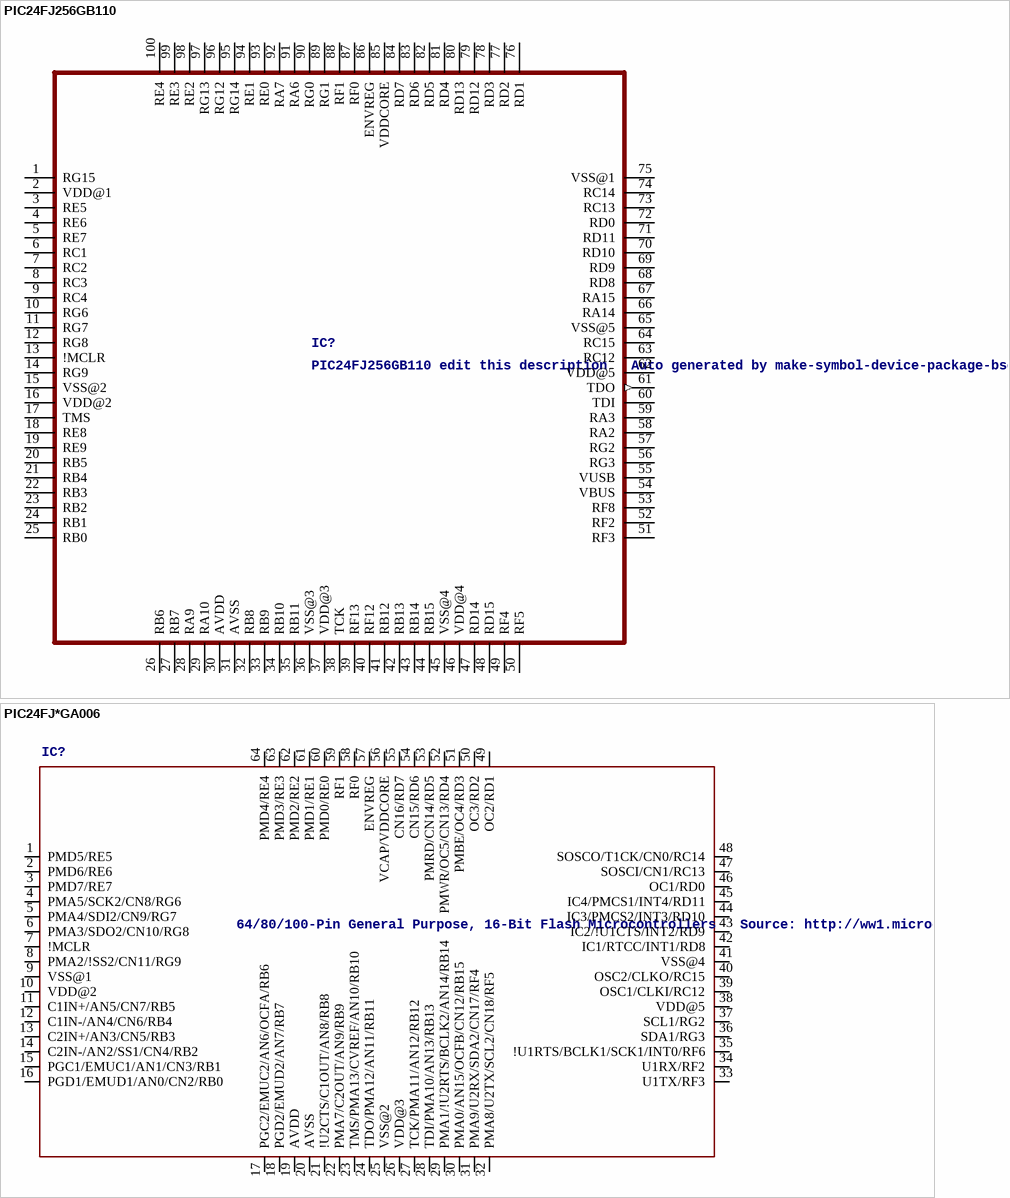
[diagram p34: symbols PIC24FJ256GB110 to PIC24FJ*GA006]

## PIC24FJ256GB110
designator IC?, comment PIC24FJ256GB110 edit this description   Auto generated by make-symbol-device-package-bsdl.ulp Rev. 25 Source: PIC24FJ256GB110.bsd
MPN: PIC24FJ256GB110-I/PF; OC_FARNELL: 1576870; OC_NEWARK: 54M5133
footprint TQFP100-14X14
pins: 1 RG15, 2 VDD@1 (power), 3 RE5, 4 RE6, 5 RE7, 6 RC1, 7 RC2, 8 RC3, 9 RC4, 10 RG6, 11 RG7, 12 RG8, 13 !MCLR, 14 RG9, 15 VSS@2 (power), 16 VDD@2 (power), 17 TMS, 18 RE8, 19 RE9, 20 RB5, 21 RB4, 22 RB3, 23 RB2, 24 RB1, 25 RB0, 26 RB6, 27 RB7, 28 RA9, 29 RA10, 30 AVDD (power), 31 AVSS (power), 32 RB8, 33 RB9, 34 RB10, 35 RB11, 36 VSS@3 (power), 37 VDD@3 (power), 38 TCK, 39 RF13, 40 RF12, 41 RB12, 42 RB13, 43 RB14, 44 RB15, 45 VSS@4 (power), 46 VDD@4 (power), 47 RD14, 48 RD15, 49 RF4, 50 RF5, 51 RF3, 52 RF2, 53 RF8, 54 VBUS, 55 VUSB, 56 RG3, 57 RG2, 58 RA2, 59 RA3, 60 TDI, 61 TDO (out), 62 VDD@5 (power), 63 RC12, 64 RC15, 65 VSS@5 (power), 66 RA14, 67 RA15, 68 RD8, 69 RD9, 70 RD10, 71 RD11, 72 RD0, 73 RC13, 74 RC14, 75 VSS@1 (power), 76 RD1, 77 RD2, 78 RD3, 79 RD12, 80 RD13, 81 RD4, 82 RD5, 83 RD6, 84 RD7, 85 VDDCORE (power), 86 ENVREG, 87 RF0, 88 RF1, 89 RG1, 90 RG0, 91 RA6, 92 RA7, 93 RE0, 94 RE1, 95 RG14, 96 RG12, 97 RG13, 98 RE2, 99 RE3, 100 RE4

## PIC24FJ*GA006
designator IC?, comment 64/80/100-Pin General Purpose, 16-Bit Flash Microcontrollers   Source: http://ww1.microchip.com/downloads/en/DeviceDoc/39747d.pdf
MPN: PIC24FJ128GA006-I/PT; MPN: PIC24FJ64GA006-I/PT; MF: MICROCHIP; OC_FARNELL: 1146519; OC_NEWARK: 56K7337; OC_FARNELL: 1146524; OC_NEWARK: 56K7343; OC_FARNELL: unknown; OC_NEWARK: unknown
footprint TQFP64-10X10
pins: 1 PMD5/RE5, 2 PMD6/RE6, 3 PMD7/RE7, 4 PMA5/SCK2/CN8/RG6, 5 PMA4/SDI2/CN9/RG7, 6 PMA3/SDO2/CN10/RG8, 7 !MCLR, 8 PMA2/!SS2/CN11/RG9, 9 VSS@1 (power), 10 VDD@2 (power), 11 C1IN+/AN5/CN7/RB5, 12 C1IN-/AN4/CN6/RB4, 13 C2IN+/AN3/CN5/RB3, 14 C2IN-/AN2/SS1/CN4/RB2, 15 PGC1/EMUC1/AN1/CN3/RB1, 16 PGD1/EMUD1/AN0/CN2/RB0, 17 PGC2/EMUC2/AN6/OCFA/RB6, 18 PGD2/EMUD2/AN7/RB7, 19 AVDD (power), 20 AVSS (power), 21 !U2CTS/C1OUT/AN8/RB8, 22 PMA7/C2OUT/AN9/RB9, 23 TMS/PMA13/CVREF/AN10/RB10, 24 TDO/PMA12/AN11/RB11, 25 VSS@2 (power), 26 VDD@3 (power), 27 TCK/PMA11/AN12/RB12, 28 TDI/PMA10/AN13/RB13, 29 PMA1/!U2RTS/BCLK2/AN14/RB14, 30 PMA0/AN15/OCFB/CN12/RB15, 31 PMA9/U2RX/SDA2/CN17/RF4, 32 PMA8/U2TX/SCL2/CN18/RF5, 33 U1TX/RF3, 34 U1RX/RF2, 35 !U1RTS/BCLK1/SCK1/INT0/RF6, 36 SDA1/RG3, 37 SCL1/RG2, 38 VDD@5 (power), 39 OSC1/CLKI/RC12, 40 OSC2/CLKO/RC15, 41 VSS@4 (power), 42 IC1/RTCC/INT1/RD8, 43 IC2/!U1CTS/INT2/RD9, 44 IC3/PMCS2/INT3/RD10, 45 IC4/PMCS1/INT4/RD11, 46 OC1/RD0, 47 SOSCI/CN1/RC13, 48 SOSCO/T1CK/CN0/RC14, 49 OC2/RD1, 50 OC3/RD2, 51 PMBE/OC4/RD3, 52 PMWR/OC5/CN13/RD4, 53 PMRD/CN14/RD5, 54 CN15/RD6, 55 CN16/RD7, 56 VCAP/VDDCORE, 57 ENVREG, 58 RF0, 59 RF1, 60 PMD0/RE0, 61 PMD1/RE1, 62 PMD2/RE2, 63 PMD3/RE3, 64 PMD4/RE4

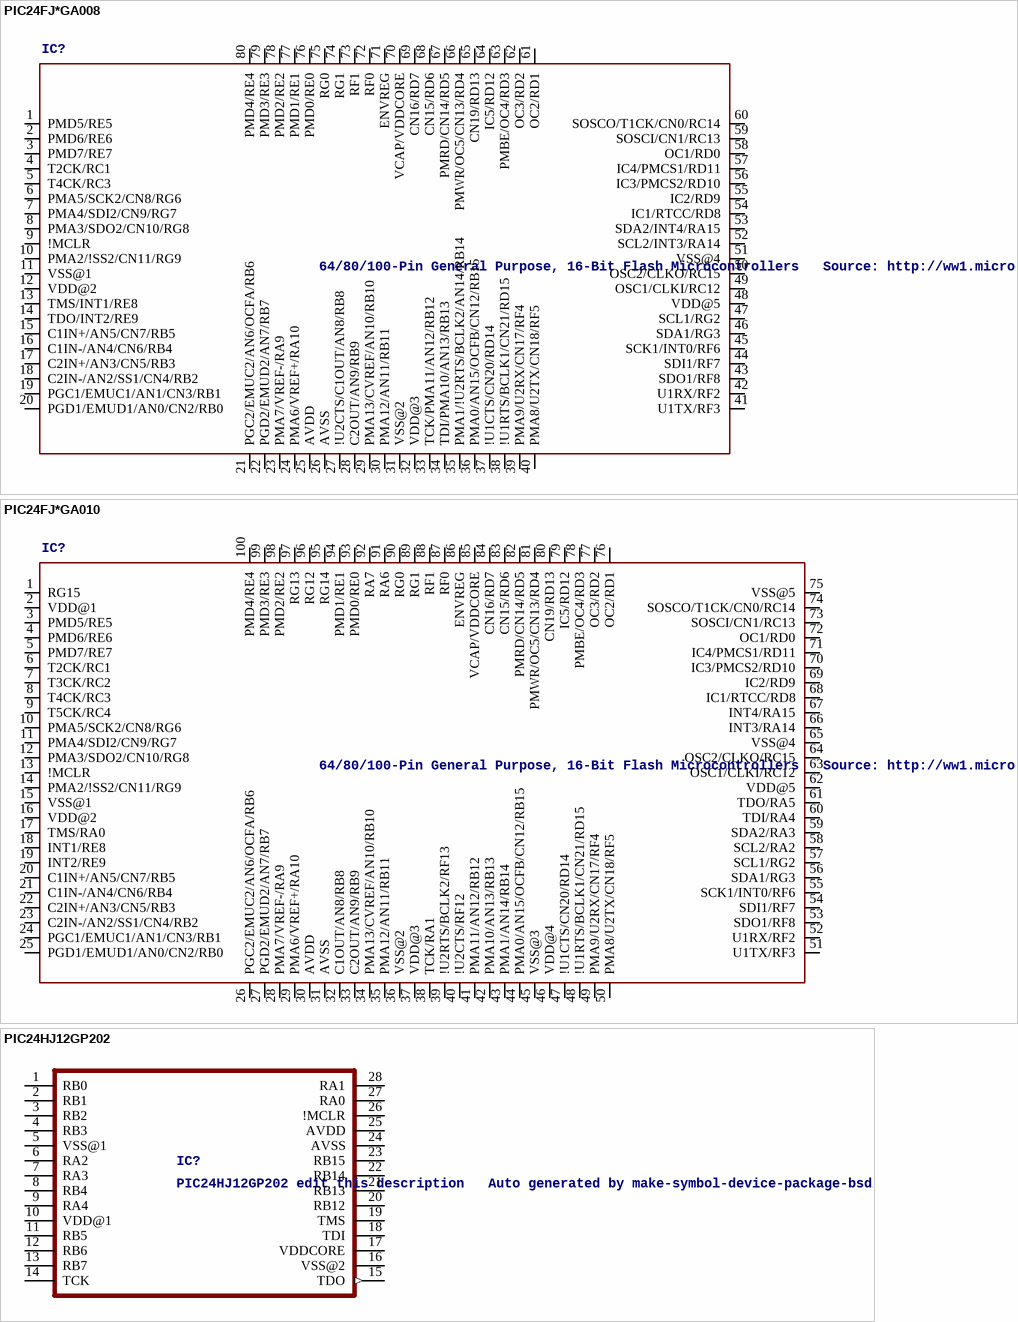
[diagram p35: symbols PIC24FJ*GA008 to PIC24HJ12GP202]

## PIC24FJ*GA008
designator IC?, comment 64/80/100-Pin General Purpose, 16-Bit Flash Microcontrollers   Source: http://ww1.microchip.com/downloads/en/DeviceDoc/39747d.pdf
MPN: PIC24FJ128GA008-I/PT; MPN: PIC24FJ64GA008-I/PT; MPN: PIC24FJ96GA008-I/PT; MF: MICROCHIP; OC_FARNELL: 1146521; OC_NEWARK: 56K7339; OC_FARNELL: 1146525; OC_NEWARK: 56K7345; OC_FARNELL: 1146529; OC_NEWARK: 56K7351
footprint TQFP80-12X12
pins: 1 PMD5/RE5, 2 PMD6/RE6, 3 PMD7/RE7, 4 T2CK/RC1, 5 T4CK/RC3, 6 PMA5/SCK2/CN8/RG6, 7 PMA4/SDI2/CN9/RG7, 8 PMA3/SDO2/CN10/RG8, 9 !MCLR, 10 PMA2/!SS2/CN11/RG9, 11 VSS@1 (power), 12 VDD@2 (power), 13 TMS/INT1/RE8, 14 TDO/INT2/RE9, 15 C1IN+/AN5/CN7/RB5, 16 C1IN-/AN4/CN6/RB4, 17 C2IN+/AN3/CN5/RB3, 18 C2IN-/AN2/SS1/CN4/RB2, 19 PGC1/EMUC1/AN1/CN3/RB1, 20 PGD1/EMUD1/AN0/CN2/RB0, 21 PGC2/EMUC2/AN6/OCFA/RB6, 22 PGD2/EMUD2/AN7/RB7, 23 PMA7/VREF-/RA9, 24 PMA6/VREF+/RA10, 25 AVDD (power), 26 AVSS (power), 27 !U2CTS/C1OUT/AN8/RB8, 28 C2OUT/AN9/RB9, 29 PMA13/CVREF/AN10/RB10, 30 PMA12/AN11/RB11, 31 VSS@2 (power), 32 VDD@3 (power), 33 TCK/PMA11/AN12/RB12, 34 TDI/PMA10/AN13/RB13, 35 PMA1/!U2RTS/BCLK2/AN14/RB14, 36 PMA0/AN15/OCFB/CN12/RB15, 37 !U1CTS/CN20/RD14, 38 !U1RTS/BCLK1/CN21/RD15, 39 PMA9/U2RX/CN17/RF4, 40 PMA8/U2TX/CN18/RF5, 41 U1TX/RF3, 42 U1RX/RF2, 43 SDO1/RF8, 44 SDI1/RF7, 45 SCK1/INT0/RF6, 46 SDA1/RG3, 47 SCL1/RG2, 48 VDD@5 (power), 49 OSC1/CLKI/RC12, 50 OSC2/CLKO/RC15, 51 VSS@4 (power), 52 SCL2/INT3/RA14, 53 SDA2/INT4/RA15, 54 IC1/RTCC/RD8, 55 IC2/RD9, 56 IC3/PMCS2/RD10, 57 IC4/PMCS1/RD11, 58 OC1/RD0, 59 SOSCI/CN1/RC13, 60 SOSCO/T1CK/CN0/RC14, 61 OC2/RD1, 62 OC3/RD2, 63 PMBE/OC4/RD3, 64 IC5/RD12, 65 CN19/RD13, 66 PMWR/OC5/CN13/RD4, 67 PMRD/CN14/RD5, 68 CN15/RD6, 69 CN16/RD7, 70 VCAP/VDDCORE, 71 ENVREG, 72 RF0, 73 RF1, 74 RG1, 75 RG0, 76 PMD0/RE0, 77 PMD1/RE1, 78 PMD2/RE2, 79 PMD3/RE3, 80 PMD4/RE4

## PIC24FJ*GA010
designator IC?, comment 64/80/100-Pin General Purpose, 16-Bit Flash Microcontrollers   Source: http://ww1.microchip.com/downloads/en/DeviceDoc/39747d.pdf
MPN: PIC24FJ128GA010-I/PT; MPN: PIC24FJ64GA010-I/PT; MPN: PIC24FJ96GA010-I/PT; OC_FARNELL: 1146522; OC_NEWARK: 56K7341; OC_FARNELL: 1146526; OC_NEWARK: 56K7347; OC_FARNELL: 1778488; OC_NEWARK: 56K7353
footprint TQFP100-14X14
pins: 1 RG15, 2 VDD@1 (power), 3 PMD5/RE5, 4 PMD6/RE6, 5 PMD7/RE7, 6 T2CK/RC1, 7 T3CK/RC2, 8 T4CK/RC3, 9 T5CK/RC4, 10 PMA5/SCK2/CN8/RG6, 11 PMA4/SDI2/CN9/RG7, 12 PMA3/SDO2/CN10/RG8, 13 !MCLR, 14 PMA2/!SS2/CN11/RG9, 15 VSS@1 (power), 16 VDD@2 (power), 17 TMS/RA0, 18 INT1/RE8, 19 INT2/RE9, 20 C1IN+/AN5/CN7/RB5, 21 C1IN-/AN4/CN6/RB4, 22 C2IN+/AN3/CN5/RB3, 23 C2IN-/AN2/SS1/CN4/RB2, 24 PGC1/EMUC1/AN1/CN3/RB1, 25 PGD1/EMUD1/AN0/CN2/RB0, 26 PGC2/EMUC2/AN6/OCFA/RB6, 27 PGD2/EMUD2/AN7/RB7, 28 PMA7/VREF-/RA9, 29 PMA6/VREF+/RA10, 30 AVDD (power), 31 AVSS (power), 32 C1OUT/AN8/RB8, 33 C2OUT/AN9/RB9, 34 PMA13/CVREF/AN10/RB10, 35 PMA12/AN11/RB11, 36 VSS@2 (power), 37 VDD@3 (power), 38 TCK/RA1, 39 !U2RTS/BCLK2/RF13, 40 !U2CTS/RF12, 41 PMA11/AN12/RB12, 42 PMA10/AN13/RB13, 43 PMA1/AN14/RB14, 44 PMA0/AN15/OCFB/CN12/RB15, 45 VSS@3 (power), 46 VDD@4 (power), 47 !U1CTS/CN20/RD14, 48 !U1RTS/BCLK1/CN21/RD15, 49 PMA9/U2RX/CN17/RF4, 50 PMA8/U2TX/CN18/RF5, 51 U1TX/RF3, 52 U1RX/RF2, 53 SDO1/RF8, 54 SDI1/RF7, 55 SCK1/INT0/RF6, 56 SDA1/RG3, 57 SCL1/RG2, 58 SCL2/RA2, 59 SDA2/RA3, 60 TDI/RA4, 61 TDO/RA5, 62 VDD@5 (power), 63 OSC1/CLKI/RC12, 64 OSC2/CLKO/RC15, 65 VSS@4 (power), 66 INT3/RA14, 67 INT4/RA15, 68 IC1/RTCC/RD8, 69 IC2/RD9, 70 IC3/PMCS2/RD10, 71 IC4/PMCS1/RD11, 72 OC1/RD0, 73 SOSCI/CN1/RC13, 74 SOSCO/T1CK/CN0/RC14, 75 VSS@5 (power), 76 OC2/RD1, 77 OC3/RD2, 78 PMBE/OC4/RD3, 79 IC5/RD12, 80 CN19/RD13, 81 PMWR/OC5/CN13/RD4, 82 PMRD/CN14/RD5, 83 CN15/RD6, 84 CN16/RD7, 85 VCAP/VDDCORE, 86 ENVREG, 87 RF0, 88 RF1, 89 RG1, 90 RG0, 91 RA6, 92 RA7, 93 PMD0/RE0, 94 PMD1/RE1, 95 RG14, 96 RG12, 97 RG13, 98 PMD2/RE2, 99 PMD3/RE3, 100 PMD4/RE4

## PIC24HJ12GP202
designator IC?, comment PIC24HJ12GP202 edit this description   Auto generated by make-symbol-device-package-bsdl.ulp Rev. 25 Source: PIC24HJ12GP202.bsd
MPN: PIC24HJ12GP202-I/ML; OC_FARNELL: unknown; OC_NEWARK: 88K6139
footprint QFN28-ML_6X6MM
pins: 1 RB0, 2 RB1, 3 RB2, 4 RB3, 5 VSS@1 (power), 6 RA2, 7 RA3, 8 RB4, 9 RA4, 10 VDD@1 (power), 11 RB5, 12 RB6, 13 RB7, 14 TCK, 15 TDO (out), 16 VSS@2 (power), 17 VDDCORE (power), 18 TDI, 19 TMS, 20 RB12, 21 RB13, 22 RB14, 23 RB15, 24 AVSS (power), 25 AVDD (power), 26 !MCLR, 27 RA0, 28 RA1

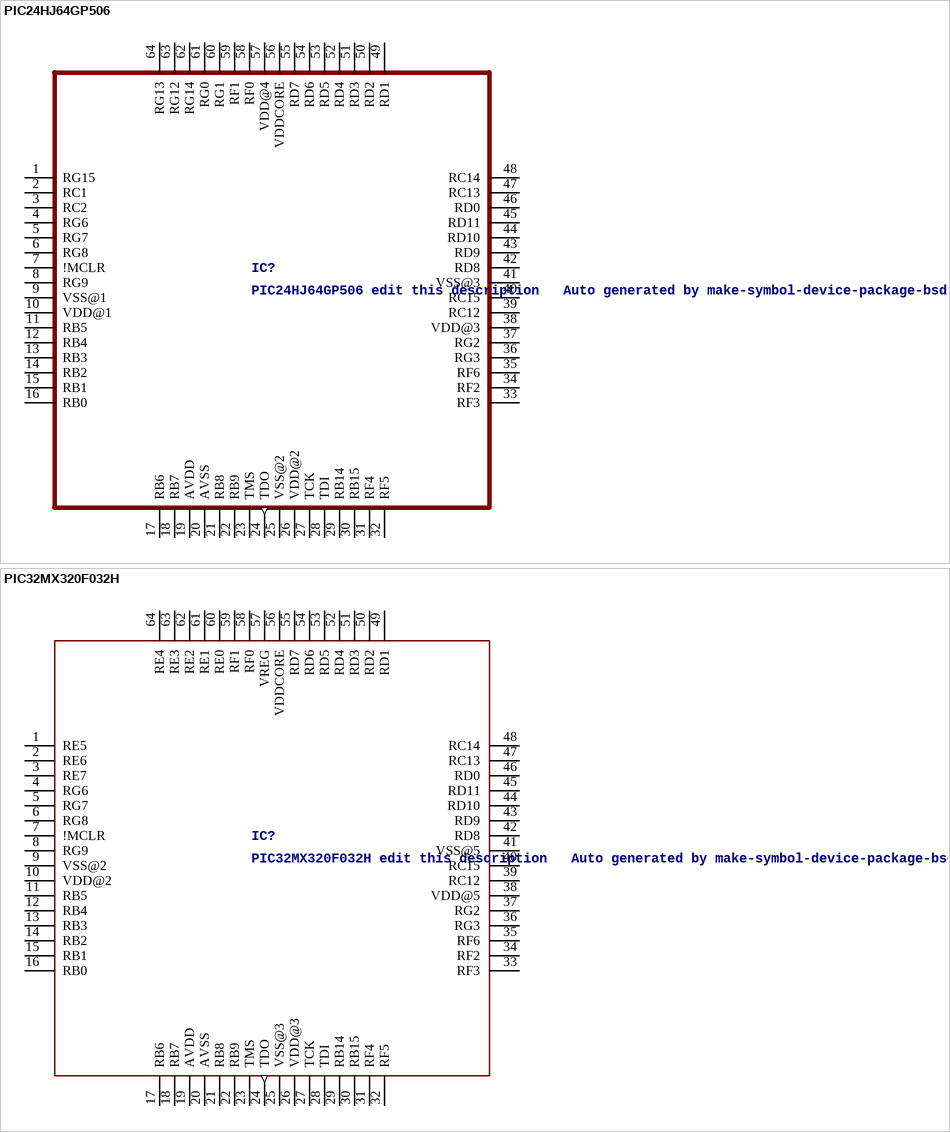
[diagram p36: symbols PIC24HJ64GP506 to PIC32MX320F032H]

## PIC24HJ64GP506
designator IC?, comment PIC24HJ64GP506 edit this description   Auto generated by make-symbol-device-package-bsdl.ulp Rev. 25 Source: PIC24HJ64GP506.bsd
MPN: PIC24HJ64GP506A-I/PT; OC_FARNELL: 1146551; OC_NEWARK: 45P4882
footprint TQFP64-10X10
pins: 1 RG15, 2 RC1, 3 RC2, 4 RG6, 5 RG7, 6 RG8, 7 !MCLR, 8 RG9, 9 VSS@1 (power), 10 VDD@1 (power), 11 RB5, 12 RB4, 13 RB3, 14 RB2, 15 RB1, 16 RB0, 17 RB6, 18 RB7, 19 AVDD (power), 20 AVSS (power), 21 RB8, 22 RB9, 23 TMS, 24 TDO (out), 25 VSS@2 (power), 26 VDD@2 (power), 27 TCK, 28 TDI, 29 RB14, 30 RB15, 31 RF4, 32 RF5, 33 RF3, 34 RF2, 35 RF6, 36 RG3, 37 RG2, 38 VDD@3 (power), 39 RC12, 40 RC15, 41 VSS@3 (power), 42 RD8, 43 RD9, 44 RD10, 45 RD11, 46 RD0, 47 RC13, 48 RC14, 49 RD1, 50 RD2, 51 RD3, 52 RD4, 53 RD5, 54 RD6, 55 RD7, 56 VDDCORE (power), 57 VDD@4 (power), 58 RF0, 59 RF1, 60 RG1, 61 RG0, 62 RG14, 63 RG12, 64 RG13

## PIC32MX320F032H
designator IC?, comment PIC32MX320F032H edit this description   Auto generated by make-symbol-device-package-bsdl.ulp Rev. 25 Source: PIC32MX320F032H.bsdl
MPN: PIC32MX320F032H-40I/PT; OC_FARNELL: 1523318; OC_NEWARK: 98M1928
footprint TQFP64-10X10
pins: 1 RE5, 2 RE6, 3 RE7, 4 RG6, 5 RG7, 6 RG8, 7 !MCLR, 8 RG9, 9 VSS@2 (power), 10 VDD@2 (power), 11 RB5, 12 RB4, 13 RB3, 14 RB2, 15 RB1, 16 RB0, 17 RB6, 18 RB7, 19 AVDD (power), 20 AVSS (power), 21 RB8, 22 RB9, 23 TMS, 24 TDO (out), 25 VSS@3 (power), 26 VDD@3 (power), 27 TCK, 28 TDI, 29 RB14, 30 RB15, 31 RF4, 32 RF5, 33 RF3, 34 RF2, 35 RF6, 36 RG3, 37 RG2, 38 VDD@5 (power), 39 RC12, 40 RC15, 41 VSS@5 (power), 42 RD8, 43 RD9, 44 RD10, 45 RD11, 46 RD0, 47 RC13, 48 RC14, 49 RD1, 50 RD2, 51 RD3, 52 RD4, 53 RD5, 54 RD6, 55 RD7, 56 VDDCORE (power), 57 VREG, 58 RF0, 59 RF1, 60 RE0, 61 RE1, 62 RE2, 63 RE3, 64 RE4

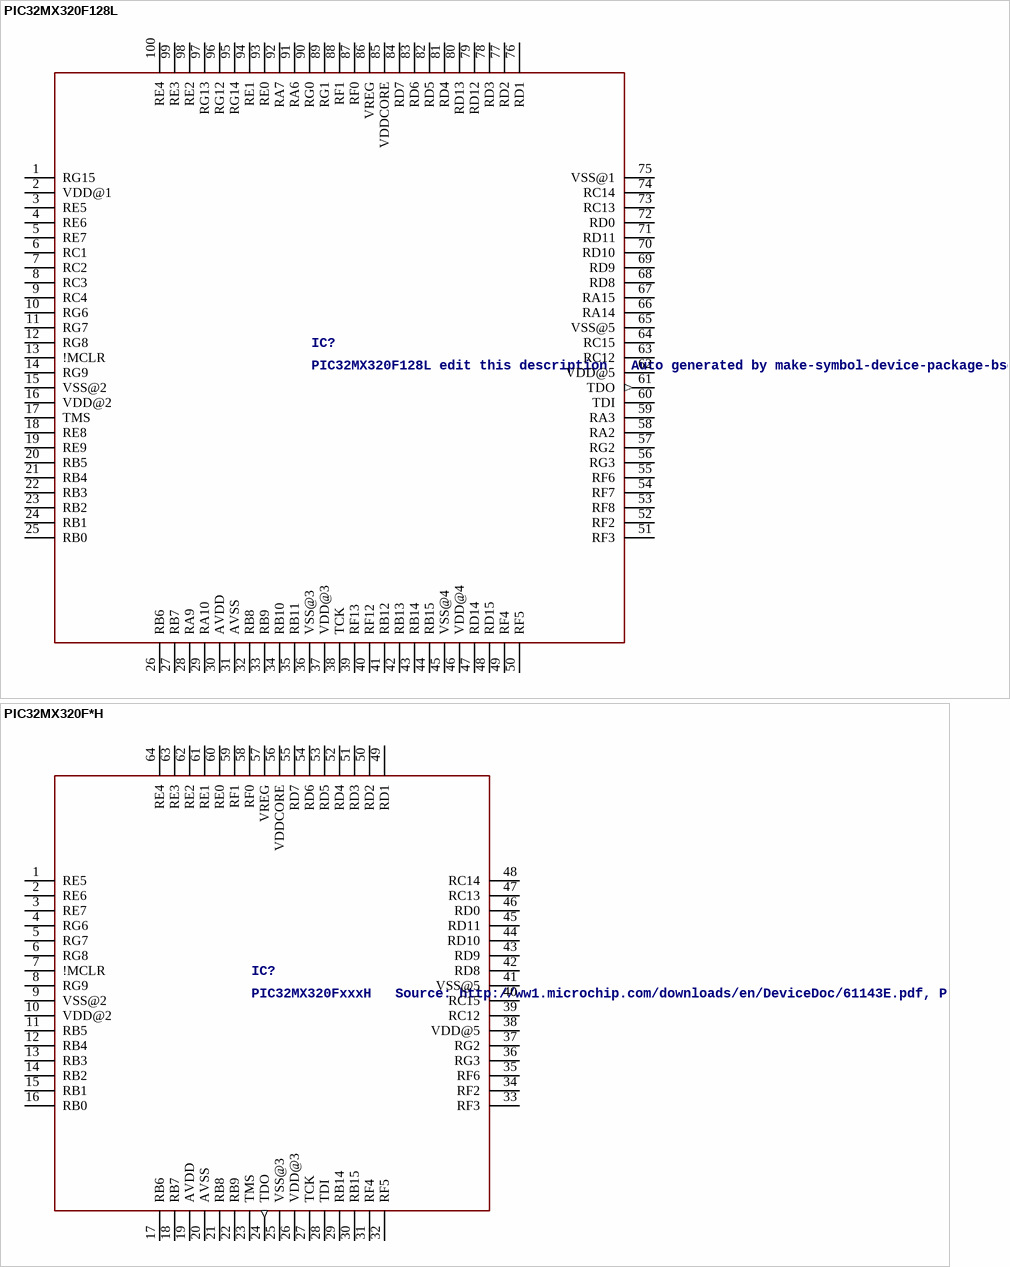
[diagram p37: symbols PIC32MX320F128L to PIC32MX320F*H]

## PIC32MX320F128L
designator IC?, comment PIC32MX320F128L edit this description   Auto generated by make-symbol-device-package-bsdl.ulp Rev. 25 Source: PIC32MX320F128L.bsdl
MPN: PIC32MX320F128L-80I/PT; OC_FARNELL: 1523321; OC_NEWARK: 77M3149
footprint SQFP-S-12X12-100
pins: 1 RG15, 2 VDD@1 (power), 3 RE5, 4 RE6, 5 RE7, 6 RC1, 7 RC2, 8 RC3, 9 RC4, 10 RG6, 11 RG7, 12 RG8, 13 !MCLR, 14 RG9, 15 VSS@2 (power), 16 VDD@2 (power), 17 TMS, 18 RE8, 19 RE9, 20 RB5, 21 RB4, 22 RB3, 23 RB2, 24 RB1, 25 RB0, 26 RB6, 27 RB7, 28 RA9, 29 RA10, 30 AVDD (power), 31 AVSS (power), 32 RB8, 33 RB9, 34 RB10, 35 RB11, 36 VSS@3 (power), 37 VDD@3 (power), 38 TCK, 39 RF13, 40 RF12, 41 RB12, 42 RB13, 43 RB14, 44 RB15, 45 VSS@4 (power), 46 VDD@4 (power), 47 RD14, 48 RD15, 49 RF4, 50 RF5, 51 RF3, 52 RF2, 53 RF8, 54 RF7, 55 RF6, 56 RG3, 57 RG2, 58 RA2, 59 RA3, 60 TDI, 61 TDO (out), 62 VDD@5 (power), 63 RC12, 64 RC15, 65 VSS@5 (power), 66 RA14, 67 RA15, 68 RD8, 69 RD9, 70 RD10, 71 RD11, 72 RD0, 73 RC13, 74 RC14, 75 VSS@1 (power), 76 RD1, 77 RD2, 78 RD3, 79 RD12, 80 RD13, 81 RD4, 82 RD5, 83 RD6, 84 RD7, 85 VDDCORE (power), 86 VREG, 87 RF0, 88 RF1, 89 RG1, 90 RG0, 91 RA6, 92 RA7, 93 RE0, 94 RE1, 95 RG14, 96 RG12, 97 RG13, 98 RE2, 99 RE3, 100 RE4

## PIC32MX320F*H
designator IC?, comment PIC32MX320FxxxH   Source: http://ww1.microchip.com/downloads/en/DeviceDoc/61143E.pdf, PIC32MX320F064H.bsdl
MPN: PIC32MX320F032H-40I/PT; MPN: PIC32MX320F064H-80I/PT; MPN: PIC32MX320F128H-80I/PT; OC_FARNELL: 1523318; OC_NEWARK: 98M1928; OC_FARNELL: 1778934; OC_NEWARK: 77M3147; OC_FARNELL: 1523320; OC_NEWARK: 77M3148
footprint TQFP64-10X10
pins: 1 RE5, 2 RE6, 3 RE7, 4 RG6, 5 RG7, 6 RG8, 7 !MCLR, 8 RG9, 9 VSS@2 (power), 10 VDD@2 (power), 11 RB5, 12 RB4, 13 RB3, 14 RB2, 15 RB1, 16 RB0, 17 RB6, 18 RB7, 19 AVDD (power), 20 AVSS (power), 21 RB8, 22 RB9, 23 TMS, 24 TDO (out), 25 VSS@3 (power), 26 VDD@3 (power), 27 TCK, 28 TDI, 29 RB14, 30 RB15, 31 RF4, 32 RF5, 33 RF3, 34 RF2, 35 RF6, 36 RG3, 37 RG2, 38 VDD@5 (power), 39 RC12, 40 RC15, 41 VSS@5 (power), 42 RD8, 43 RD9, 44 RD10, 45 RD11, 46 RD0, 47 RC13, 48 RC14, 49 RD1, 50 RD2, 51 RD3, 52 RD4, 53 RD5, 54 RD6, 55 RD7, 56 VDDCORE (power), 57 VREG, 58 RF0, 59 RF1, 60 RE0, 61 RE1, 62 RE2, 63 RE3, 64 RE4

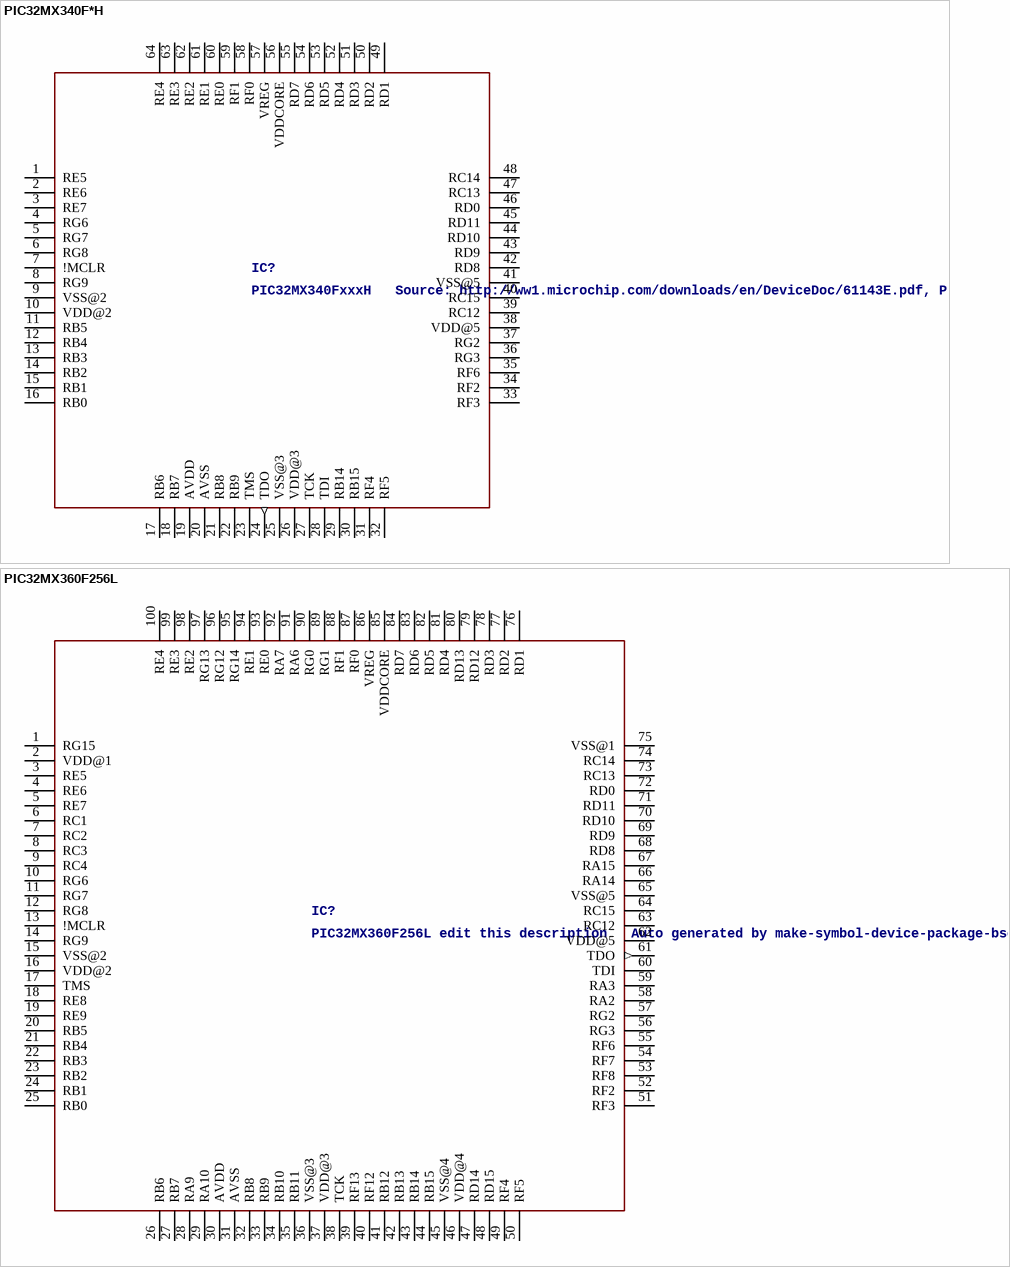
[diagram p38: symbols PIC32MX340F*H to PIC32MX360F256L]

## PIC32MX340F*H
designator IC?, comment PIC32MX340FxxxH   Source: http://ww1.microchip.com/downloads/en/DeviceDoc/61143E.pdf, PIC32MX320F064H.bsdl
MPN: PIC32MX340F128H-80I/PT; MPN: PIC32MX340F256H-80I/PT; MPN: PIC32MX340F512H-80I/PT; OC_FARNELL: 1677914; OC_NEWARK: 98M1929; OC_FARNELL: 1523322; OC_NEWARK: 77M3150; OC_FARNELL: 1677915; OC_NEWARK: 98M1931
footprint TQFP64-10X10
pins: 1 RE5, 2 RE6, 3 RE7, 4 RG6, 5 RG7, 6 RG8, 7 !MCLR, 8 RG9, 9 VSS@2 (power), 10 VDD@2 (power), 11 RB5, 12 RB4, 13 RB3, 14 RB2, 15 RB1, 16 RB0, 17 RB6, 18 RB7, 19 AVDD (power), 20 AVSS (power), 21 RB8, 22 RB9, 23 TMS, 24 TDO (out), 25 VSS@3 (power), 26 VDD@3 (power), 27 TCK, 28 TDI, 29 RB14, 30 RB15, 31 RF4, 32 RF5, 33 RF3, 34 RF2, 35 RF6, 36 RG3, 37 RG2, 38 VDD@5 (power), 39 RC12, 40 RC15, 41 VSS@5 (power), 42 RD8, 43 RD9, 44 RD10, 45 RD11, 46 RD0, 47 RC13, 48 RC14, 49 RD1, 50 RD2, 51 RD3, 52 RD4, 53 RD5, 54 RD6, 55 RD7, 56 VDDCORE (power), 57 VREG, 58 RF0, 59 RF1, 60 RE0, 61 RE1, 62 RE2, 63 RE3, 64 RE4